# Altium integrated library Kondensator_DIP.IntLib: 1521 symbols (part 4 of 5)
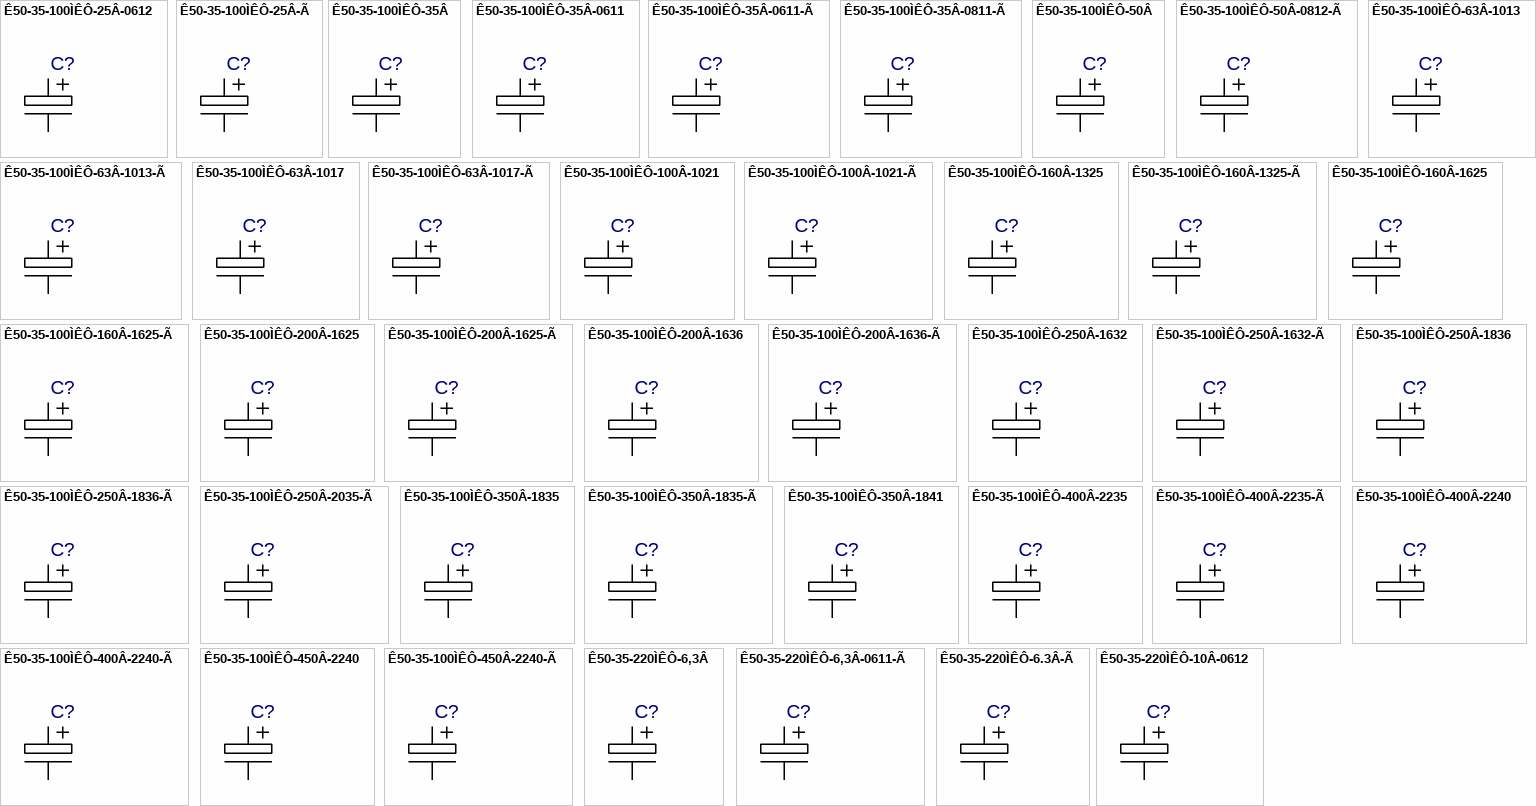
[diagram p41: symbols Ê50-35-100ÌÊÔ-25Â-0612 to Ê50-35-220ÌÊÔ-10Â-0612]

## Ê50-35-100ÌÊÔ-200Â-1625-Ã
designator C?  (value not drawn)
Value: *
footprint Ê50-35-16XX-Ã_K5035-1R
footprint Ê50-35-16XX-Ã_K5035-1R1
footprint Ê50-35-16XX-Ã_Primary
pins: 1, 2

## Ê50-35-100ÌÊÔ-200Â-1636
designator C?  (value not drawn)
Value: *
footprint Ê50-35-1625_K5035-1R
footprint Ê50-35-1625_K5035-1R1
footprint Ê50-35-1625_Primary
pins: 1, 2

## Ê50-35-100ÌÊÔ-200Â-1636-Ã
designator C?  (value not drawn)
Value: *
footprint Ê50-35-16XX-Ã_K5035-1R
footprint Ê50-35-16XX-Ã_K5035-1R1
footprint Ê50-35-16XX-Ã_Primary
pins: 1, 2

## Ê50-35-100ÌÊÔ-250Â-1632
designator C?  (value not drawn)
Value: *
footprint Ê50-35-1625_K5035-1R
footprint Ê50-35-1625_K5035-1R1
footprint Ê50-35-1625_Primary
pins: 1, 2

## Ê50-35-100ÌÊÔ-250Â-1632-Ã
designator C?  (value not drawn)
Value: *
footprint Ê50-35-16XX-Ã_K5035-1R
footprint Ê50-35-16XX-Ã_K5035-1R1
footprint Ê50-35-16XX-Ã_Primary
pins: 1, 2

## Ê50-35-100ÌÊÔ-250Â-1836
designator C?  (value not drawn)
Value: *
footprint Ê50-35-1835_K5035-1R
footprint Ê50-35-1835_K5035-1R1
footprint Ê50-35-1835_Primary
pins: 1, 2

## Ê50-35-100ÌÊÔ-250Â-1836-Ã
designator C?  (value not drawn)
Value: *
footprint Ê50-35-18XX-Ã_K5035-1R
footprint Ê50-35-18XX-Ã_K5035-1R1
footprint Ê50-35-18XX-Ã_Primary
pins: 1, 2

## Ê50-35-100ÌÊÔ-250Â-2035-Ã
designator C?  (value not drawn)
Value: *
footprint Ê50-35-20XX-Ã_K5035-1R
footprint Ê50-35-20XX-Ã_K5035-1R1
footprint Ê50-35-20XX-Ã_Primary
pins: 1, 2

## Ê50-35-100ÌÊÔ-350Â-1835
designator C?  (value not drawn)
Value: *
footprint Ê50-35-1835_K5035-1R
footprint Ê50-35-1835_K5035-1R1
footprint Ê50-35-1835_Primary
pins: 1, 2

## Ê50-35-100ÌÊÔ-350Â-1835-Ã
designator C?  (value not drawn)
Value: *
footprint Ê50-35-18XX-Ã_K5035-1R
footprint Ê50-35-18XX-Ã_K5035-1R1
footprint Ê50-35-18XX-Ã_Primary
pins: 1, 2

## Ê50-35-100ÌÊÔ-350Â-1841
designator C?  (value not drawn)
Value: *
footprint Ê50-35-1835_K5035-1R
footprint Ê50-35-1835_K5035-1R1
footprint Ê50-35-1835_Primary
pins: 1, 2

## Ê50-35-100ÌÊÔ-400Â-2235
designator C?  (value not drawn)
Value: *
footprint Ê50-35-2240_K5035-1R
footprint Ê50-35-2240_K5035-1R1
footprint Ê50-35-2240_Primary
pins: 1, 2

## Ê50-35-100ÌÊÔ-400Â-2235-Ã
designator C?  (value not drawn)
Value: *
footprint Ê50-35-22XX-Ã_K5035-1R
footprint Ê50-35-22XX-Ã_K5035-1R1
footprint Ê50-35-22XX-Ã_Primary
pins: 1, 2

## Ê50-35-100ÌÊÔ-400Â-2240
designator C?  (value not drawn)
Value: *
footprint Ê50-35-2240_K5035-1R
footprint Ê50-35-2240_K5035-1R1
footprint Ê50-35-2240_Primary
pins: 1, 2

## Ê50-35-100ÌÊÔ-400Â-2240-Ã
designator C?  (value not drawn)
Value: *
footprint Ê50-35-22XX-Ã_K5035-1R
footprint Ê50-35-22XX-Ã_K5035-1R1
footprint Ê50-35-22XX-Ã_Primary
pins: 1, 2

## Ê50-35-100ÌÊÔ-450Â-2240
designator C?  (value not drawn)
Value: *
footprint Ê50-35-2240_K5035-1R
footprint Ê50-35-2240_K5035-1R1
footprint Ê50-35-2240_Primary
pins: 1, 2

## Ê50-35-100ÌÊÔ-450Â-2240-Ã
designator C?  (value not drawn)
Value: *
footprint Ê50-35-22XX-Ã_K5035-1R
footprint Ê50-35-22XX-Ã_K5035-1R1
footprint Ê50-35-22XX-Ã_Primary
pins: 1, 2

## Ê50-35-220ÌÊÔ-6,3Â
designator C?  (value not drawn)
Value: *
footprint Ê50-35-0511_K5035-1R
footprint Ê50-35-0511_K5035-1R1
footprint Ê50-35-0511_Primary
pins: 1, 2

## Ê50-35-220ÌÊÔ-6,3Â-0611-Ã
designator C?  (value not drawn)
Value: *
footprint Ê50-35-0611-Ã_K5035-1R
footprint Ê50-35-0611-Ã_K5035-1R1
footprint Ê50-35-0611-Ã_Primary
pins: 1, 2

## Ê50-35-220ÌÊÔ-6.3Â-Ã
designator C?  (value not drawn)
Value: *
footprint Ê50-35-0511-Ã_K5035-1R
footprint Ê50-35-0511-Ã_K5035-1R1
footprint Ê50-35-0511-Ã_Primary
pins: 1, 2

## Ê50-35-220ÌÊÔ-10Â-0612
designator C?  (value not drawn)
Value: *
footprint Ê50-35-0611_K5035-1R
footprint Ê50-35-0611_K5035-1R1
footprint Ê50-35-0611_Primary
pins: 1, 2

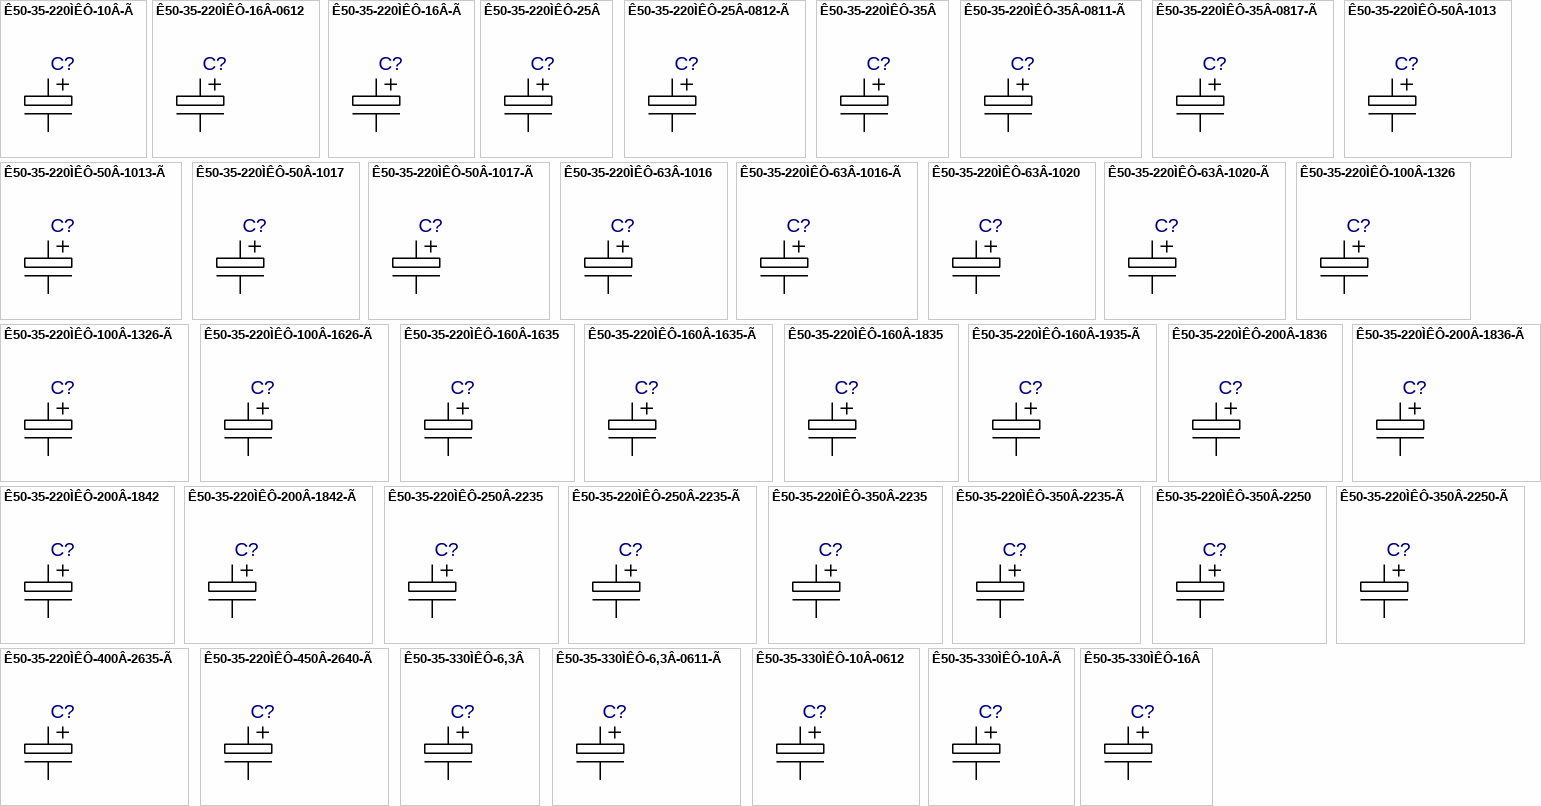
[diagram p30: symbols Ê50-35-220ÌÊÔ-10Â-Ã to Ê50-35-330ÌÊÔ-16Â]

## Ê50-35-220ÌÊÔ-10Â-Ã
designator C?  (value not drawn)
Value: *
footprint Ê50-35-0611-Ã_K5035-1R
footprint Ê50-35-0611-Ã_K5035-1R1
footprint Ê50-35-0611-Ã_Primary
pins: 1, 2

## Ê50-35-220ÌÊÔ-16Â-0612
designator C?  (value not drawn)
Value: *
footprint Ê50-35-0611_K5035-1R
footprint Ê50-35-0611_K5035-1R1
footprint Ê50-35-0611_Primary
pins: 1, 2

## Ê50-35-220ÌÊÔ-16Â-Ã
designator C?  (value not drawn)
Value: *
footprint Ê50-35-0611-Ã_K5035-1R
footprint Ê50-35-0611-Ã_K5035-1R1
footprint Ê50-35-0611-Ã_Primary
pins: 1, 2

## Ê50-35-220ÌÊÔ-25Â
designator C?  (value not drawn)
Value: *
footprint R50-35-08XX_K5035-2R
footprint R50-35-08XX_K5035-2R1
footprint R50-35-08XX_Primary
pins: 1, 2

## Ê50-35-220ÌÊÔ-25Â-0812-Ã
designator C?  (value not drawn)
Value: *
footprint Ê50-35-08XX-Ã_K5035-2R
footprint Ê50-35-08XX-Ã_K5035-2R1
footprint Ê50-35-08XX-Ã_Primary
pins: 1, 2

## Ê50-35-220ÌÊÔ-35Â
designator C?  (value not drawn)
Value: *
footprint R50-35-08XX_K5035-2R
footprint R50-35-08XX_K5035-2R1
footprint R50-35-08XX_Primary
pins: 1, 2

## Ê50-35-220ÌÊÔ-35Â-0811-Ã
designator C?  (value not drawn)
Value: *
footprint Ê50-35-08XX-Ã_K5035-2R
footprint Ê50-35-08XX-Ã_K5035-2R1
footprint Ê50-35-08XX-Ã_Primary
pins: 1, 2

## Ê50-35-220ÌÊÔ-35Â-0817-Ã
designator C?  (value not drawn)
Value: *
footprint Ê50-35-08XX-Ã_K5035-2R
footprint Ê50-35-08XX-Ã_K5035-2R1
footprint Ê50-35-08XX-Ã_Primary
pins: 1, 2

## Ê50-35-220ÌÊÔ-50Â-1013
designator C?  (value not drawn)
Value: *
footprint Ê50-35-1020_K5035-1R
footprint Ê50-35-1020_K5035-1R1
footprint Ê50-35-1020_Primary
pins: 1, 2

## Ê50-35-220ÌÊÔ-50Â-1013-Ã
designator C?  (value not drawn)
Value: *
footprint Ê50-35-1020-Ã_K5035-1R
footprint Ê50-35-1020-Ã_K5035-1R1
footprint Ê50-35-1020-Ã_Primary
pins: 1, 2

## Ê50-35-220ÌÊÔ-50Â-1017
designator C?  (value not drawn)
Value: *
footprint Ê50-35-1020_K5035-1R
footprint Ê50-35-1020_K5035-1R1
footprint Ê50-35-1020_Primary
pins: 1, 2

## Ê50-35-220ÌÊÔ-50Â-1017-Ã
designator C?  (value not drawn)
Value: *
footprint Ê50-35-1020-Ã_K5035-1R
footprint Ê50-35-1020-Ã_K5035-1R1
footprint Ê50-35-1020-Ã_Primary
pins: 1, 2

## Ê50-35-220ÌÊÔ-63Â-1016
designator C?  (value not drawn)
Value: *
footprint Ê50-35-1020_K5035-1R
footprint Ê50-35-1020_K5035-1R1
footprint Ê50-35-1020_Primary
pins: 1, 2

## Ê50-35-220ÌÊÔ-63Â-1016-Ã
designator C?  (value not drawn)
Value: *
footprint Ê50-35-1020-Ã_K5035-1R
footprint Ê50-35-1020-Ã_K5035-1R1
footprint Ê50-35-1020-Ã_Primary
pins: 1, 2

## Ê50-35-220ÌÊÔ-63Â-1020
designator C?  (value not drawn)
Value: *
footprint Ê50-35-1020_K5035-1R
footprint Ê50-35-1020_K5035-1R1
footprint Ê50-35-1020_Primary
pins: 1, 2

## Ê50-35-220ÌÊÔ-63Â-1020-Ã
designator C?  (value not drawn)
Value: *
footprint Ê50-35-1020-Ã_K5035-1R
footprint Ê50-35-1020-Ã_K5035-1R1
footprint Ê50-35-1020-Ã_Primary
pins: 1, 2

## Ê50-35-220ÌÊÔ-100Â-1326
designator C?  (value not drawn)
Value: *
footprint Ê50-35-1320_K5035-1R
footprint Ê50-35-1320_K5035-1R1
footprint Ê50-35-1320_Primary
pins: 1, 2

## Ê50-35-220ÌÊÔ-100Â-1326-Ã
designator C?  (value not drawn)
Value: *
footprint Ê50-35-13XX-Ã_K5035-1R
footprint Ê50-35-13XX-Ã_K5035-1R1
footprint Ê50-35-13XX-Ã_Primary
pins: 1, 2

## Ê50-35-220ÌÊÔ-100Â-1626-Ã
designator C?  (value not drawn)
Value: *
footprint Ê50-35-16XX-Ã_K5035-1R
footprint Ê50-35-16XX-Ã_K5035-1R1
footprint Ê50-35-16XX-Ã_Primary
pins: 1, 2

## Ê50-35-220ÌÊÔ-160Â-1635
designator C?  (value not drawn)
Value: *
footprint Ê50-35-1625_K5035-1R
footprint Ê50-35-1625_K5035-1R1
footprint Ê50-35-1625_Primary
pins: 1, 2

## Ê50-35-220ÌÊÔ-160Â-1635-Ã
designator C?  (value not drawn)
Value: *
footprint Ê50-35-16XX-Ã_K5035-1R
footprint Ê50-35-16XX-Ã_K5035-1R1
footprint Ê50-35-16XX-Ã_Primary
pins: 1, 2

## Ê50-35-220ÌÊÔ-160Â-1835
designator C?  (value not drawn)
Value: *
footprint Ê50-35-1835_K5035-1R
footprint Ê50-35-1835_K5035-1R1
footprint Ê50-35-1835_Primary
pins: 1, 2

## Ê50-35-220ÌÊÔ-160Â-1935-Ã
designator C?  (value not drawn)
Value: *
footprint Ê50-35-18XX-Ã_K5035-1R
footprint Ê50-35-18XX-Ã_K5035-1R1
footprint Ê50-35-18XX-Ã_Primary
pins: 1, 2

## Ê50-35-220ÌÊÔ-200Â-1836
designator C?  (value not drawn)
Value: *
footprint Ê50-35-1835_K5035-1R
footprint Ê50-35-1835_K5035-1R1
footprint Ê50-35-1835_Primary
pins: 1, 2

## Ê50-35-220ÌÊÔ-200Â-1836-Ã
designator C?  (value not drawn)
Value: *
footprint Ê50-35-18XX-Ã_K5035-1R
footprint Ê50-35-18XX-Ã_K5035-1R1
footprint Ê50-35-18XX-Ã_Primary
pins: 1, 2

## Ê50-35-220ÌÊÔ-200Â-1842
designator C?  (value not drawn)
Value: *
footprint Ê50-35-1835_K5035-1R
footprint Ê50-35-1835_K5035-1R1
footprint Ê50-35-1835_Primary
pins: 1, 2

## Ê50-35-220ÌÊÔ-200Â-1842-Ã
designator C?  (value not drawn)
Value: *
footprint Ê50-35-18XX-Ã_K5035-1R
footprint Ê50-35-18XX-Ã_K5035-1R1
footprint Ê50-35-18XX-Ã_Primary
pins: 1, 2

## Ê50-35-220ÌÊÔ-250Â-2235
designator C?  (value not drawn)
Value: *
footprint Ê50-35-2240_K5035-1R
footprint Ê50-35-2240_K5035-1R1
footprint Ê50-35-2240_Primary
pins: 1, 2

## Ê50-35-220ÌÊÔ-250Â-2235-Ã
designator C?  (value not drawn)
Value: *
footprint Ê50-35-22XX-Ã_K5035-1R
footprint Ê50-35-22XX-Ã_K5035-1R1
footprint Ê50-35-22XX-Ã_Primary
pins: 1, 2

## Ê50-35-220ÌÊÔ-350Â-2235
designator C?  (value not drawn)
Value: *
footprint Ê50-35-2240_K5035-1R
footprint Ê50-35-2240_K5035-1R1
footprint Ê50-35-2240_Primary
pins: 1, 2

## Ê50-35-220ÌÊÔ-350Â-2235-Ã
designator C?  (value not drawn)
Value: *
footprint Ê50-35-22XX-Ã_K5035-1R
footprint Ê50-35-22XX-Ã_K5035-1R1
footprint Ê50-35-22XX-Ã_Primary
pins: 1, 2

## Ê50-35-220ÌÊÔ-350Â-2250
designator C?  (value not drawn)
Value: *
footprint Ê50-35-2240_K5035-1R
footprint Ê50-35-2240_K5035-1R1
footprint Ê50-35-2240_Primary
pins: 1, 2

## Ê50-35-220ÌÊÔ-350Â-2250-Ã
designator C?  (value not drawn)
Value: *
footprint Ê50-35-22XX-Ã_K5035-1R
footprint Ê50-35-22XX-Ã_K5035-1R1
footprint Ê50-35-22XX-Ã_Primary
pins: 1, 2

## Ê50-35-220ÌÊÔ-400Â-2635-Ã
designator C?  (value not drawn)
Value: *
footprint Ê50-35-26XX-Ã_K5035-1R
footprint Ê50-35-26XX-Ã_K5035-1R1
footprint Ê50-35-26XX-Ã_Primary
pins: 1, 2

## Ê50-35-220ÌÊÔ-450Â-2640-Ã
designator C?  (value not drawn)
Value: *
footprint Ê50-35-26XX-Ã_K5035-1R
footprint Ê50-35-26XX-Ã_K5035-1R1
footprint Ê50-35-26XX-Ã_Primary
pins: 1, 2

## Ê50-35-330ÌÊÔ-6,3Â
designator C?  (value not drawn)
Value: *
footprint Ê50-35-0611_K5035-1R
footprint Ê50-35-0611_K5035-1R1
footprint Ê50-35-0611_Primary
pins: 1, 2

## Ê50-35-330ÌÊÔ-6,3Â-0611-Ã
designator C?  (value not drawn)
Value: *
footprint Ê50-35-0611-Ã_K5035-1R
footprint Ê50-35-0611-Ã_K5035-1R1
footprint Ê50-35-0611-Ã_Primary
pins: 1, 2

## Ê50-35-330ÌÊÔ-10Â-0612
designator C?  (value not drawn)
Value: *
footprint Ê50-35-0611_K5035-1R
footprint Ê50-35-0611_K5035-1R1
footprint Ê50-35-0611_Primary
pins: 1, 2

## Ê50-35-330ÌÊÔ-10Â-Ã
designator C?  (value not drawn)
Value: *
footprint Ê50-35-0611-Ã_K5035-1R
footprint Ê50-35-0611-Ã_K5035-1R1
footprint Ê50-35-0611-Ã_Primary
pins: 1, 2

## Ê50-35-330ÌÊÔ-16Â
designator C?  (value not drawn)
Value: *
footprint R50-35-08XX_K5035-2R
footprint R50-35-08XX_K5035-2R1
footprint R50-35-08XX_Primary
pins: 1, 2

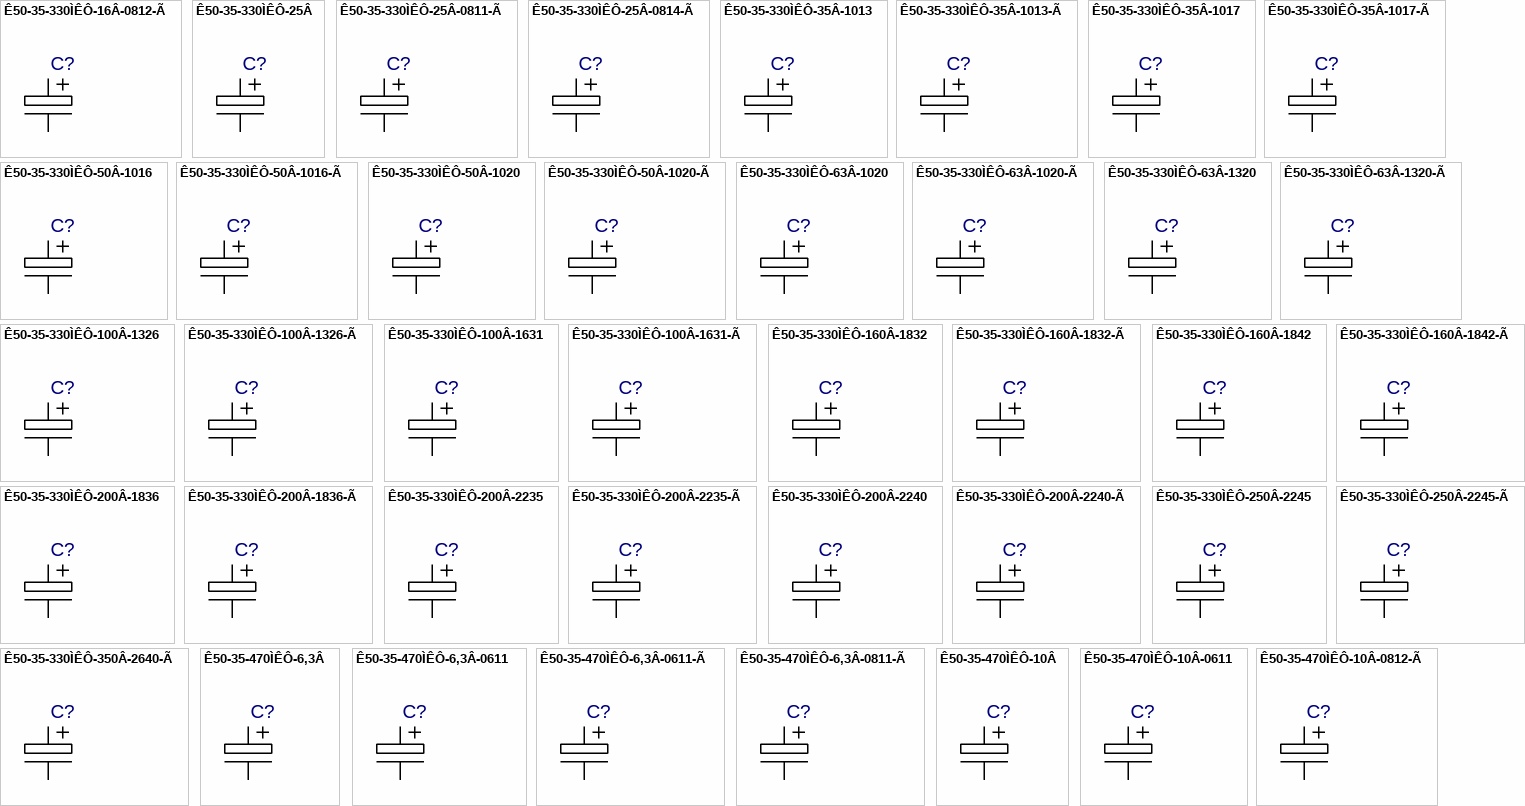
[diagram p31: symbols Ê50-35-330ÌÊÔ-16Â-0812-Ã to Ê50-35-470ÌÊÔ-10Â-0812-Ã]

## Ê50-35-330ÌÊÔ-16Â-0812-Ã
designator C?  (value not drawn)
Value: *
footprint Ê50-35-08XX-Ã_K5035-2R
footprint Ê50-35-08XX-Ã_K5035-2R1
footprint Ê50-35-08XX-Ã_Primary
pins: 1, 2

## Ê50-35-330ÌÊÔ-25Â
designator C?  (value not drawn)
Value: *
footprint R50-35-08XX_K5035-2R
footprint R50-35-08XX_K5035-2R1
footprint R50-35-08XX_Primary
pins: 1, 2

## Ê50-35-330ÌÊÔ-25Â-0811-Ã
designator C?  (value not drawn)
Value: *
footprint Ê50-35-08XX-Ã_K5035-2R
footprint Ê50-35-08XX-Ã_K5035-2R1
footprint Ê50-35-08XX-Ã_Primary
pins: 1, 2

## Ê50-35-330ÌÊÔ-25Â-0814-Ã
designator C?  (value not drawn)
Value: *
footprint Ê50-35-08XX-Ã_K5035-2R
footprint Ê50-35-08XX-Ã_K5035-2R1
footprint Ê50-35-08XX-Ã_Primary
pins: 1, 2

## Ê50-35-330ÌÊÔ-35Â-1013
designator C?  (value not drawn)
Value: *
footprint Ê50-35-1020_K5035-1R
footprint Ê50-35-1020_K5035-1R1
footprint Ê50-35-1020_Primary
pins: 1, 2

## Ê50-35-330ÌÊÔ-35Â-1013-Ã
designator C?  (value not drawn)
Value: *
footprint Ê50-35-1020-Ã_K5035-1R
footprint Ê50-35-1020-Ã_K5035-1R1
footprint Ê50-35-1020-Ã_Primary
pins: 1, 2

## Ê50-35-330ÌÊÔ-35Â-1017
designator C?  (value not drawn)
Value: *
footprint Ê50-35-1020_K5035-1R
footprint Ê50-35-1020_K5035-1R1
footprint Ê50-35-1020_Primary
pins: 1, 2

## Ê50-35-330ÌÊÔ-35Â-1017-Ã
designator C?  (value not drawn)
Value: *
footprint Ê50-35-1020-Ã_K5035-1R
footprint Ê50-35-1020-Ã_K5035-1R1
footprint Ê50-35-1020-Ã_Primary
pins: 1, 2

## Ê50-35-330ÌÊÔ-50Â-1016
designator C?  (value not drawn)
Value: *
footprint Ê50-35-1020_K5035-1R
footprint Ê50-35-1020_K5035-1R1
footprint Ê50-35-1020_Primary
pins: 1, 2

## Ê50-35-330ÌÊÔ-50Â-1016-Ã
designator C?  (value not drawn)
Value: *
footprint Ê50-35-1020-Ã_K5035-1R
footprint Ê50-35-1020-Ã_K5035-1R1
footprint Ê50-35-1020-Ã_Primary
pins: 1, 2

## Ê50-35-330ÌÊÔ-50Â-1020
designator C?  (value not drawn)
Value: *
footprint Ê50-35-1020_K5035-1R
footprint Ê50-35-1020_K5035-1R1
footprint Ê50-35-1020_Primary
pins: 1, 2

## Ê50-35-330ÌÊÔ-50Â-1020-Ã
designator C?  (value not drawn)
Value: *
footprint Ê50-35-1020-Ã_K5035-1R
footprint Ê50-35-1020-Ã_K5035-1R1
footprint Ê50-35-1020-Ã_Primary
pins: 1, 2

## Ê50-35-330ÌÊÔ-63Â-1020
designator C?  (value not drawn)
Value: *
footprint Ê50-35-1020_K5035-1R
footprint Ê50-35-1020_K5035-1R1
footprint Ê50-35-1020_Primary
pins: 1, 2

## Ê50-35-330ÌÊÔ-63Â-1020-Ã
designator C?  (value not drawn)
Value: *
footprint Ê50-35-1020-Ã_K5035-1R
footprint Ê50-35-1020-Ã_K5035-1R1
footprint Ê50-35-1020-Ã_Primary
pins: 1, 2

## Ê50-35-330ÌÊÔ-63Â-1320
designator C?  (value not drawn)
Value: *
footprint Ê50-35-1320_K5035-1R
footprint Ê50-35-1320_K5035-1R1
footprint Ê50-35-1320_Primary
pins: 1, 2

## Ê50-35-330ÌÊÔ-63Â-1320-Ã
designator C?  (value not drawn)
Value: *
footprint Ê50-35-13XX-Ã_K5035-1R
footprint Ê50-35-13XX-Ã_K5035-1R1
footprint Ê50-35-13XX-Ã_Primary
pins: 1, 2

## Ê50-35-330ÌÊÔ-100Â-1326
designator C?  (value not drawn)
Value: *
footprint Ê50-35-1320_K5035-1R
footprint Ê50-35-1320_K5035-1R1
footprint Ê50-35-1320_Primary
pins: 1, 2

## Ê50-35-330ÌÊÔ-100Â-1326-Ã
designator C?  (value not drawn)
Value: *
footprint Ê50-35-13XX-Ã_K5035-1R
footprint Ê50-35-13XX-Ã_K5035-1R1
footprint Ê50-35-13XX-Ã_Primary
pins: 1, 2

## Ê50-35-330ÌÊÔ-100Â-1631
designator C?  (value not drawn)
Value: *
footprint Ê50-35-1625_K5035-1R
footprint Ê50-35-1625_K5035-1R1
footprint Ê50-35-1625_Primary
pins: 1, 2

## Ê50-35-330ÌÊÔ-100Â-1631-Ã
designator C?  (value not drawn)
Value: *
footprint Ê50-35-16XX-Ã_K5035-1R
footprint Ê50-35-16XX-Ã_K5035-1R1
footprint Ê50-35-16XX-Ã_Primary
pins: 1, 2

## Ê50-35-330ÌÊÔ-160Â-1832
designator C?  (value not drawn)
Value: *
footprint Ê50-35-1835_K5035-1R
footprint Ê50-35-1835_K5035-1R1
footprint Ê50-35-1835_Primary
pins: 1, 2

## Ê50-35-330ÌÊÔ-160Â-1832-Ã
designator C?  (value not drawn)
Value: *
footprint Ê50-35-18XX-Ã_K5035-1R
footprint Ê50-35-18XX-Ã_K5035-1R1
footprint Ê50-35-18XX-Ã_Primary
pins: 1, 2

## Ê50-35-330ÌÊÔ-160Â-1842
designator C?  (value not drawn)
Value: *
footprint Ê50-35-1835_K5035-1R
footprint Ê50-35-1835_K5035-1R1
footprint Ê50-35-1835_Primary
pins: 1, 2

## Ê50-35-330ÌÊÔ-160Â-1842-Ã
designator C?  (value not drawn)
Value: *
footprint Ê50-35-18XX-Ã_K5035-1R
footprint Ê50-35-18XX-Ã_K5035-1R1
footprint Ê50-35-18XX-Ã_Primary
pins: 1, 2

## Ê50-35-330ÌÊÔ-200Â-1836
designator C?  (value not drawn)
Value: *
footprint Ê50-35-1835_K5035-1R
footprint Ê50-35-1835_K5035-1R1
footprint Ê50-35-1835_Primary
pins: 1, 2

## Ê50-35-330ÌÊÔ-200Â-1836-Ã
designator C?  (value not drawn)
Value: *
footprint Ê50-35-18XX-Ã_K5035-1R
footprint Ê50-35-18XX-Ã_K5035-1R1
footprint Ê50-35-18XX-Ã_Primary
pins: 1, 2

## Ê50-35-330ÌÊÔ-200Â-2235
designator C?  (value not drawn)
Value: *
footprint Ê50-35-2240_K5035-1R
footprint Ê50-35-2240_K5035-1R1
footprint Ê50-35-2240_Primary
pins: 1, 2

## Ê50-35-330ÌÊÔ-200Â-2235-Ã
designator C?  (value not drawn)
Value: *
footprint Ê50-35-22XX-Ã_K5035-1R
footprint Ê50-35-22XX-Ã_K5035-1R1
footprint Ê50-35-22XX-Ã_Primary
pins: 1, 2

## Ê50-35-330ÌÊÔ-200Â-2240
designator C?  (value not drawn)
Value: *
footprint Ê50-35-2240_K5035-1R
footprint Ê50-35-2240_K5035-1R1
footprint Ê50-35-2240_Primary
pins: 1, 2

## Ê50-35-330ÌÊÔ-200Â-2240-Ã
designator C?  (value not drawn)
Value: *
footprint Ê50-35-22XX-Ã_K5035-1R
footprint Ê50-35-22XX-Ã_K5035-1R1
footprint Ê50-35-22XX-Ã_Primary
pins: 1, 2

## Ê50-35-330ÌÊÔ-250Â-2245
designator C?  (value not drawn)
Value: *
footprint Ê50-35-2240_K5035-1R
footprint Ê50-35-2240_K5035-1R1
footprint Ê50-35-2240_Primary
pins: 1, 2

## Ê50-35-330ÌÊÔ-250Â-2245-Ã
designator C?  (value not drawn)
Value: *
footprint Ê50-35-22XX-Ã_K5035-1R
footprint Ê50-35-22XX-Ã_K5035-1R1
footprint Ê50-35-22XX-Ã_Primary
pins: 1, 2

## Ê50-35-330ÌÊÔ-350Â-2640-Ã
designator C?  (value not drawn)
Value: *
footprint Ê50-35-26XX-Ã_K5035-1R
footprint Ê50-35-26XX-Ã_K5035-1R1
footprint Ê50-35-26XX-Ã_Primary
pins: 1, 2

## Ê50-35-470ÌÊÔ-6,3Â
designator C?  (value not drawn)
Value: *
footprint R50-35-08XX_K5035-2R
footprint R50-35-08XX_K5035-2R1
footprint R50-35-08XX_Primary
pins: 1, 2

## Ê50-35-470ÌÊÔ-6,3Â-0611
designator C?  (value not drawn)
Value: *
footprint Ê50-35-0611_K5035-1R
footprint Ê50-35-0611_K5035-1R1
footprint Ê50-35-0611_Primary
pins: 1, 2

## Ê50-35-470ÌÊÔ-6,3Â-0611-Ã
designator C?  (value not drawn)
Value: *
footprint Ê50-35-0611-Ã_K5035-1R
footprint Ê50-35-0611-Ã_K5035-1R1
footprint Ê50-35-0611-Ã_Primary
pins: 1, 2

## Ê50-35-470ÌÊÔ-6,3Â-0811-Ã
designator C?  (value not drawn)
Value: *
footprint Ê50-35-08XX-Ã_K5035-2R
footprint Ê50-35-08XX-Ã_K5035-2R1
footprint Ê50-35-08XX-Ã_Primary
pins: 1, 2

## Ê50-35-470ÌÊÔ-10Â
designator C?  (value not drawn)
Value: *
footprint R50-35-08XX_K5035-2R
footprint R50-35-08XX_K5035-2R1
footprint R50-35-08XX_Primary
pins: 1, 2

## Ê50-35-470ÌÊÔ-10Â-0611
designator C?  (value not drawn)
Value: *
footprint Ê50-35-0611_K5035-1R
footprint Ê50-35-0611_K5035-1R1
footprint Ê50-35-0611_Primary
pins: 1, 2

## Ê50-35-470ÌÊÔ-10Â-0812-Ã
designator C?  (value not drawn)
Value: *
footprint Ê50-35-08XX-Ã_K5035-2R
footprint Ê50-35-08XX-Ã_K5035-2R1
footprint Ê50-35-08XX-Ã_Primary
pins: 1, 2

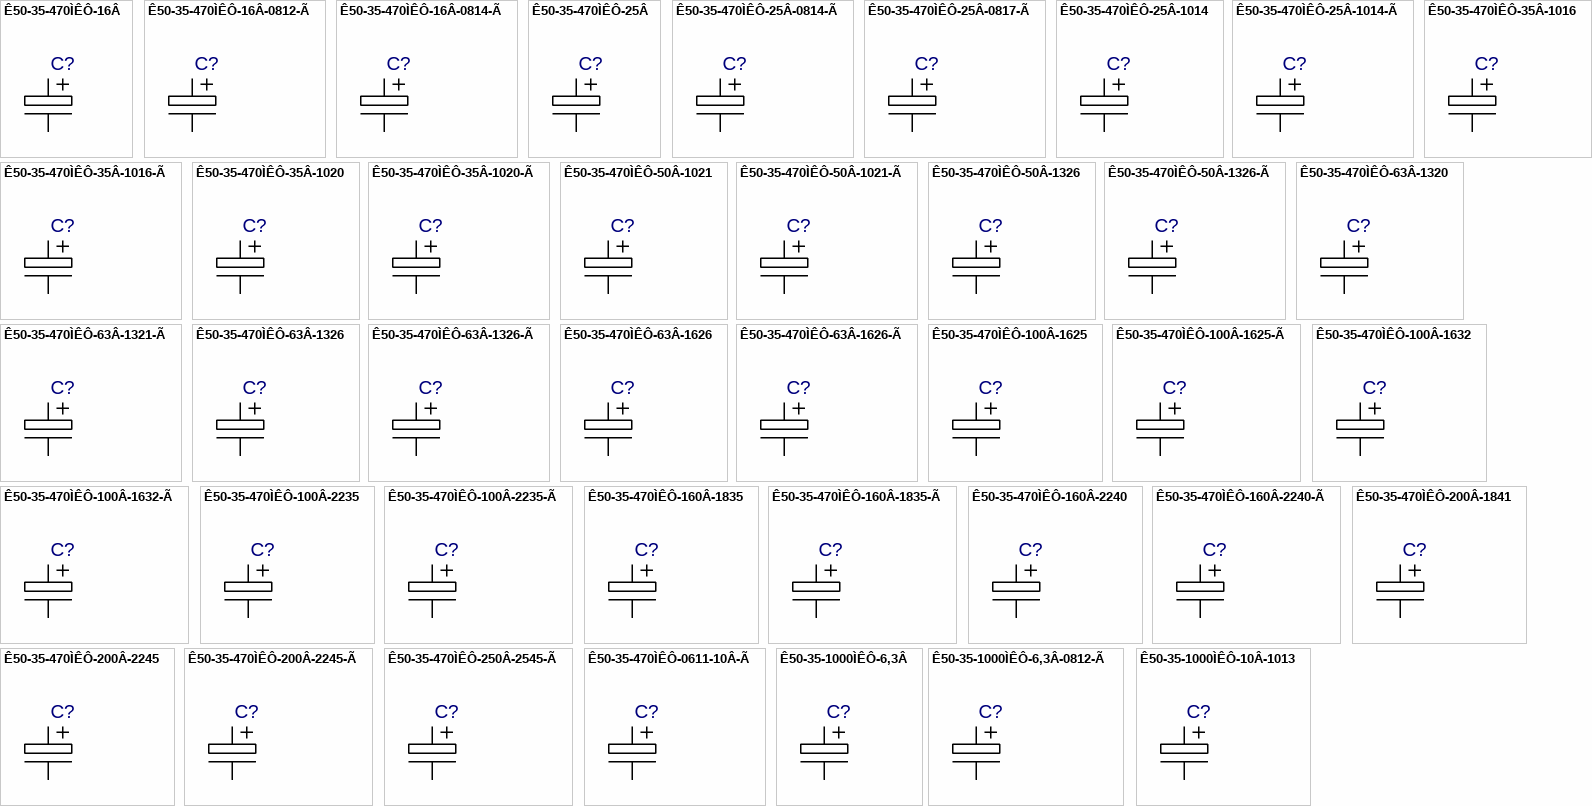
[diagram p32: symbols Ê50-35-470ÌÊÔ-16Â to Ê50-35-1000ÌÊÔ-10Â-1013]

## Ê50-35-470ÌÊÔ-16Â
designator C?  (value not drawn)
Value: *
footprint R50-35-08XX_K5035-2R
footprint R50-35-08XX_K5035-2R1
footprint R50-35-08XX_Primary
pins: 1, 2

## Ê50-35-470ÌÊÔ-16Â-0812-Ã
designator C?  (value not drawn)
Value: *
footprint Ê50-35-08XX-Ã_K5035-2R
footprint Ê50-35-08XX-Ã_K5035-2R1
footprint Ê50-35-08XX-Ã_Primary
pins: 1, 2

## Ê50-35-470ÌÊÔ-16Â-0814-Ã
designator C?  (value not drawn)
Value: *
footprint Ê50-35-08XX-Ã_K5035-2R
footprint Ê50-35-08XX-Ã_K5035-2R1
footprint Ê50-35-08XX-Ã_Primary
pins: 1, 2

## Ê50-35-470ÌÊÔ-25Â
designator C?  (value not drawn)
Value: *
footprint R50-35-08XX_K5035-2R
footprint R50-35-08XX_K5035-2R1
footprint R50-35-08XX_Primary
pins: 1, 2

## Ê50-35-470ÌÊÔ-25Â-0814-Ã
designator C?  (value not drawn)
Value: *
footprint Ê50-35-08XX-Ã_K5035-2R
footprint Ê50-35-08XX-Ã_K5035-2R1
footprint Ê50-35-08XX-Ã_Primary
pins: 1, 2

## Ê50-35-470ÌÊÔ-25Â-0817-Ã
designator C?  (value not drawn)
Value: *
footprint Ê50-35-08XX-Ã_K5035-2R
footprint Ê50-35-08XX-Ã_K5035-2R1
footprint Ê50-35-08XX-Ã_Primary
pins: 1, 2

## Ê50-35-470ÌÊÔ-25Â-1014
designator C?  (value not drawn)
Value: *
footprint Ê50-35-1020_K5035-1R
footprint Ê50-35-1020_K5035-1R1
footprint Ê50-35-1020_Primary
pins: 1, 2

## Ê50-35-470ÌÊÔ-25Â-1014-Ã
designator C?  (value not drawn)
Value: *
footprint Ê50-35-1020-Ã_K5035-1R
footprint Ê50-35-1020-Ã_K5035-1R1
footprint Ê50-35-1020-Ã_Primary
pins: 1, 2

## Ê50-35-470ÌÊÔ-35Â-1016
designator C?  (value not drawn)
Value: *
footprint Ê50-35-1020_K5035-1R
footprint Ê50-35-1020_K5035-1R1
footprint Ê50-35-1020_Primary
pins: 1, 2

## Ê50-35-470ÌÊÔ-35Â-1016-Ã
designator C?  (value not drawn)
Value: *
footprint Ê50-35-1020-Ã_K5035-1R
footprint Ê50-35-1020-Ã_K5035-1R1
footprint Ê50-35-1020-Ã_Primary
pins: 1, 2

## Ê50-35-470ÌÊÔ-35Â-1020
designator C?  (value not drawn)
Value: *
footprint Ê50-35-1020_K5035-1R
footprint Ê50-35-1020_K5035-1R1
footprint Ê50-35-1020_Primary
pins: 1, 2

## Ê50-35-470ÌÊÔ-35Â-1020-Ã
designator C?  (value not drawn)
Value: *
footprint Ê50-35-1020-Ã_K5035-1R
footprint Ê50-35-1020-Ã_K5035-1R1
footprint Ê50-35-1020-Ã_Primary
pins: 1, 2

## Ê50-35-470ÌÊÔ-50Â-1021
designator C?  (value not drawn)
Value: *
footprint Ê50-35-1020_K5035-1R
footprint Ê50-35-1020_K5035-1R1
footprint Ê50-35-1020_Primary
pins: 1, 2

## Ê50-35-470ÌÊÔ-50Â-1021-Ã
designator C?  (value not drawn)
Value: *
footprint Ê50-35-1020-Ã_K5035-1R
footprint Ê50-35-1020-Ã_K5035-1R1
footprint Ê50-35-1020-Ã_Primary
pins: 1, 2

## Ê50-35-470ÌÊÔ-50Â-1326
designator C?  (value not drawn)
Value: *
footprint Ê50-35-1320_K5035-1R
footprint Ê50-35-1320_K5035-1R1
footprint Ê50-35-1320_Primary
pins: 1, 2

## Ê50-35-470ÌÊÔ-50Â-1326-Ã
designator C?  (value not drawn)
Value: *
footprint Ê50-35-13XX-Ã_K5035-1R
footprint Ê50-35-13XX-Ã_K5035-1R1
footprint Ê50-35-13XX-Ã_Primary
pins: 1, 2

## Ê50-35-470ÌÊÔ-63Â-1320
designator C?  (value not drawn)
Value: *
footprint Ê50-35-1320_K5035-1R
footprint Ê50-35-1320_K5035-1R1
footprint Ê50-35-1320_Primary
pins: 1, 2

## Ê50-35-470ÌÊÔ-63Â-1321-Ã
designator C?  (value not drawn)
Value: *
footprint Ê50-35-13XX-Ã_K5035-1R
footprint Ê50-35-13XX-Ã_K5035-1R1
footprint Ê50-35-13XX-Ã_Primary
pins: 1, 2

## Ê50-35-470ÌÊÔ-63Â-1326
designator C?  (value not drawn)
Value: *
footprint Ê50-35-1320_K5035-1R
footprint Ê50-35-1320_K5035-1R1
footprint Ê50-35-1320_Primary
pins: 1, 2

## Ê50-35-470ÌÊÔ-63Â-1326-Ã
designator C?  (value not drawn)
Value: *
footprint Ê50-35-13XX-Ã_K5035-1R
footprint Ê50-35-13XX-Ã_K5035-1R1
footprint Ê50-35-13XX-Ã_Primary
pins: 1, 2

## Ê50-35-470ÌÊÔ-63Â-1626
designator C?  (value not drawn)
Value: *
footprint Ê50-35-1625_K5035-1R
footprint Ê50-35-1625_K5035-1R1
footprint Ê50-35-1625_Primary
pins: 1, 2

## Ê50-35-470ÌÊÔ-63Â-1626-Ã
designator C?  (value not drawn)
Value: *
footprint Ê50-35-16XX-Ã_K5035-1R
footprint Ê50-35-16XX-Ã_K5035-1R1
footprint Ê50-35-16XX-Ã_Primary
pins: 1, 2

## Ê50-35-470ÌÊÔ-100Â-1625
designator C?  (value not drawn)
Value: *
footprint Ê50-35-1625_K5035-1R
footprint Ê50-35-1625_K5035-1R1
footprint Ê50-35-1625_Primary
pins: 1, 2

## Ê50-35-470ÌÊÔ-100Â-1625-Ã
designator C?  (value not drawn)
Value: *
footprint Ê50-35-16XX-Ã_K5035-1R
footprint Ê50-35-16XX-Ã_K5035-1R1
footprint Ê50-35-16XX-Ã_Primary
pins: 1, 2

## Ê50-35-470ÌÊÔ-100Â-1632
designator C?  (value not drawn)
Value: *
footprint Ê50-35-1625_K5035-1R
footprint Ê50-35-1625_K5035-1R1
footprint Ê50-35-1625_Primary
pins: 1, 2

## Ê50-35-470ÌÊÔ-100Â-1632-Ã
designator C?  (value not drawn)
Value: *
footprint Ê50-35-16XX-Ã_K5035-1R
footprint Ê50-35-16XX-Ã_K5035-1R1
footprint Ê50-35-16XX-Ã_Primary
pins: 1, 2

## Ê50-35-470ÌÊÔ-100Â-2235
designator C?  (value not drawn)
Value: *
footprint Ê50-35-2240_K5035-1R
footprint Ê50-35-2240_K5035-1R1
footprint Ê50-35-2240_Primary
pins: 1, 2

## Ê50-35-470ÌÊÔ-100Â-2235-Ã
designator C?  (value not drawn)
Value: *
footprint Ê50-35-22XX-Ã_K5035-1R
footprint Ê50-35-22XX-Ã_K5035-1R1
footprint Ê50-35-22XX-Ã_Primary
pins: 1, 2

## Ê50-35-470ÌÊÔ-160Â-1835
designator C?  (value not drawn)
Value: *
footprint Ê50-35-1835_K5035-1R
footprint Ê50-35-1835_K5035-1R1
footprint Ê50-35-1835_Primary
pins: 1, 2

## Ê50-35-470ÌÊÔ-160Â-1835-Ã
designator C?  (value not drawn)
Value: *
footprint Ê50-35-18XX-Ã_K5035-1R
footprint Ê50-35-18XX-Ã_K5035-1R1
footprint Ê50-35-18XX-Ã_Primary
pins: 1, 2

## Ê50-35-470ÌÊÔ-160Â-2240
designator C?  (value not drawn)
Value: *
footprint Ê50-35-2240_K5035-1R
footprint Ê50-35-2240_K5035-1R1
footprint Ê50-35-2240_Primary
pins: 1, 2

## Ê50-35-470ÌÊÔ-160Â-2240-Ã
designator C?  (value not drawn)
Value: *
footprint Ê50-35-22XX-Ã_K5035-1R
footprint Ê50-35-22XX-Ã_K5035-1R1
footprint Ê50-35-22XX-Ã_Primary
pins: 1, 2

## Ê50-35-470ÌÊÔ-200Â-1841
designator C?  (value not drawn)
Value: *
footprint Ê50-35-1835_K5035-1R
footprint Ê50-35-1835_K5035-1R1
footprint Ê50-35-1835_Primary
pins: 1, 2

## Ê50-35-470ÌÊÔ-200Â-2245
designator C?  (value not drawn)
Value: *
footprint Ê50-35-2240_K5035-1R
footprint Ê50-35-2240_K5035-1R1
footprint Ê50-35-2240_Primary
pins: 1, 2

## Ê50-35-470ÌÊÔ-200Â-2245-Ã
designator C?  (value not drawn)
Value: *
footprint Ê50-35-22XX-Ã_K5035-1R
footprint Ê50-35-22XX-Ã_K5035-1R1
footprint Ê50-35-22XX-Ã_Primary
pins: 1, 2

## Ê50-35-470ÌÊÔ-250Â-2545-Ã
designator C?  (value not drawn)
Value: *
footprint Ê50-35-25XX-Ã_K5035-1R
footprint Ê50-35-25XX-Ã_K5035-1R1
footprint Ê50-35-25XX-Ã_Primary
pins: 1, 2

## Ê50-35-470ÌÊÔ-0611-10Â-Ã
designator C?  (value not drawn)
Value: *
footprint Ê50-35-0611-Ã_K5035-1R
footprint Ê50-35-0611-Ã_K5035-1R1
footprint Ê50-35-0611-Ã_Primary
pins: 1, 2

## Ê50-35-1000ÌÊÔ-6,3Â
designator C?  (value not drawn)
Value: *
footprint R50-35-08XX_K5035-2R
footprint R50-35-08XX_K5035-2R1
footprint R50-35-08XX_Primary
pins: 1, 2

## Ê50-35-1000ÌÊÔ-6,3Â-0812-Ã
designator C?  (value not drawn)
Value: *
footprint Ê50-35-08XX-Ã_K5035-2R
footprint Ê50-35-08XX-Ã_K5035-2R1
footprint Ê50-35-08XX-Ã_Primary
pins: 1, 2

## Ê50-35-1000ÌÊÔ-10Â-1013
designator C?  (value not drawn)
Value: *
footprint Ê50-35-1020_K5035-1R
footprint Ê50-35-1020_K5035-1R1
footprint Ê50-35-1020_Primary
pins: 1, 2

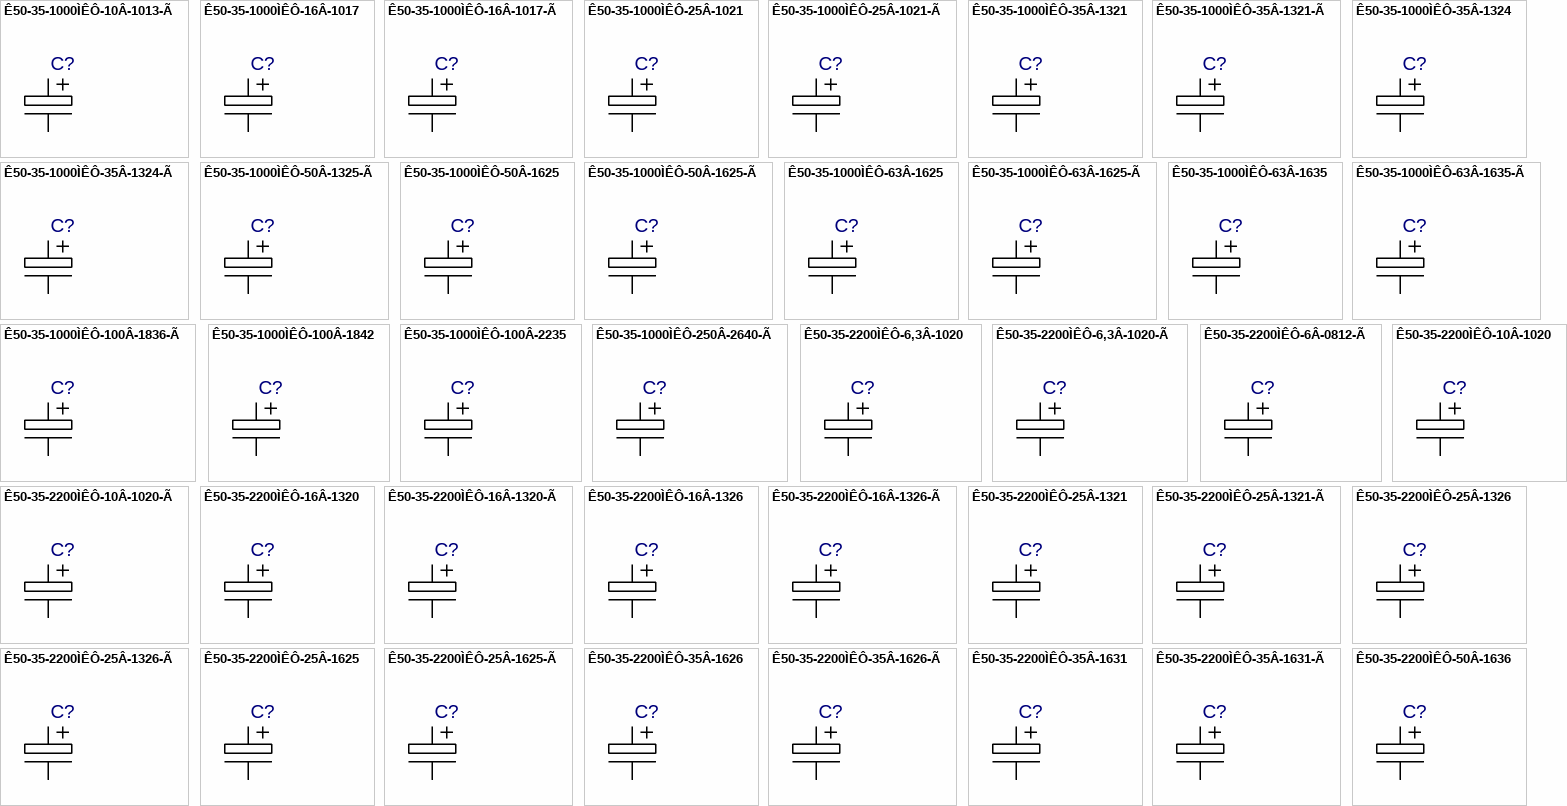
[diagram p33: symbols Ê50-35-1000ÌÊÔ-10Â-1013-Ã to Ê50-35-2200ÌÊÔ-50Â-1636]

## Ê50-35-1000ÌÊÔ-10Â-1013-Ã
designator C?  (value not drawn)
Value: *
footprint Ê50-35-1020-Ã_K5035-1R
footprint Ê50-35-1020-Ã_K5035-1R1
footprint Ê50-35-1020-Ã_Primary
pins: 1, 2

## Ê50-35-1000ÌÊÔ-16Â-1017
designator C?  (value not drawn)
Value: *
footprint Ê50-35-1020_K5035-1R
footprint Ê50-35-1020_K5035-1R1
footprint Ê50-35-1020_Primary
pins: 1, 2

## Ê50-35-1000ÌÊÔ-16Â-1017-Ã
designator C?  (value not drawn)
Value: *
footprint Ê50-35-1020-Ã_K5035-1R
footprint Ê50-35-1020-Ã_K5035-1R1
footprint Ê50-35-1020-Ã_Primary
pins: 1, 2

## Ê50-35-1000ÌÊÔ-25Â-1021
designator C?  (value not drawn)
Value: *
footprint Ê50-35-1020_K5035-1R
footprint Ê50-35-1020_K5035-1R1
footprint Ê50-35-1020_Primary
pins: 1, 2

## Ê50-35-1000ÌÊÔ-25Â-1021-Ã
designator C?  (value not drawn)
Value: *
footprint Ê50-35-1020-Ã_K5035-1R
footprint Ê50-35-1020-Ã_K5035-1R1
footprint Ê50-35-1020-Ã_Primary
pins: 1, 2

## Ê50-35-1000ÌÊÔ-35Â-1321
designator C?  (value not drawn)
Value: *
footprint Ê50-35-1320_K5035-1R
footprint Ê50-35-1320_K5035-1R1
footprint Ê50-35-1320_Primary
pins: 1, 2

## Ê50-35-1000ÌÊÔ-35Â-1321-Ã
designator C?  (value not drawn)
Value: *
footprint Ê50-35-13XX-Ã_K5035-1R
footprint Ê50-35-13XX-Ã_K5035-1R1
footprint Ê50-35-13XX-Ã_Primary
pins: 1, 2

## Ê50-35-1000ÌÊÔ-35Â-1324
designator C?  (value not drawn)
Value: *
footprint Ê50-35-1320_K5035-1R
footprint Ê50-35-1320_K5035-1R1
footprint Ê50-35-1320_Primary
pins: 1, 2

## Ê50-35-1000ÌÊÔ-35Â-1324-Ã
designator C?  (value not drawn)
Value: *
footprint Ê50-35-13XX-Ã_K5035-1R
footprint Ê50-35-13XX-Ã_K5035-1R1
footprint Ê50-35-13XX-Ã_Primary
pins: 1, 2

## Ê50-35-1000ÌÊÔ-50Â-1325-Ã
designator C?  (value not drawn)
Value: *
footprint Ê50-35-13XX-Ã_K5035-1R
footprint Ê50-35-13XX-Ã_K5035-1R1
footprint Ê50-35-13XX-Ã_Primary
pins: 1, 2

## Ê50-35-1000ÌÊÔ-50Â-1625
designator C?  (value not drawn)
Value: *
footprint Ê50-35-1625_K5035-1R
footprint Ê50-35-1625_K5035-1R1
footprint Ê50-35-1625_Primary
pins: 1, 2

## Ê50-35-1000ÌÊÔ-50Â-1625-Ã
designator C?  (value not drawn)
Value: *
footprint Ê50-35-16XX-Ã_K5035-1R
footprint Ê50-35-16XX-Ã_K5035-1R1
footprint Ê50-35-16XX-Ã_Primary
pins: 1, 2

## Ê50-35-1000ÌÊÔ-63Â-1625
designator C?  (value not drawn)
Value: *
footprint Ê50-35-1625_K5035-1R
footprint Ê50-35-1625_K5035-1R1
footprint Ê50-35-1625_Primary
pins: 1, 2

## Ê50-35-1000ÌÊÔ-63Â-1625-Ã
designator C?  (value not drawn)
Value: *
footprint Ê50-35-16XX-Ã_K5035-1R
footprint Ê50-35-16XX-Ã_K5035-1R1
footprint Ê50-35-16XX-Ã_Primary
pins: 1, 2

## Ê50-35-1000ÌÊÔ-63Â-1635
designator C?  (value not drawn)
Value: *
footprint Ê50-35-1625_K5035-1R
footprint Ê50-35-1625_K5035-1R1
footprint Ê50-35-1625_Primary
pins: 1, 2

## Ê50-35-1000ÌÊÔ-63Â-1635-Ã
designator C?  (value not drawn)
Value: *
footprint Ê50-35-16XX-Ã_K5035-1R
footprint Ê50-35-16XX-Ã_K5035-1R1
footprint Ê50-35-16XX-Ã_Primary
pins: 1, 2

## Ê50-35-1000ÌÊÔ-100Â-1836-Ã
designator C?  (value not drawn)
Value: *
footprint Ê50-35-18XX-Ã_K5035-1R
footprint Ê50-35-18XX-Ã_K5035-1R1
footprint Ê50-35-18XX-Ã_Primary
pins: 1, 2

## Ê50-35-1000ÌÊÔ-100Â-1842
designator C?  (value not drawn)
Value: *
footprint Ê50-35-1835_K5035-1R
footprint Ê50-35-1835_K5035-1R1
footprint Ê50-35-1835_Primary
pins: 1, 2

## Ê50-35-1000ÌÊÔ-100Â-2235
designator C?  (value not drawn)
Value: *
footprint Ê50-35-2240_K5035-1R
footprint Ê50-35-2240_K5035-1R1
footprint Ê50-35-2240_Primary
pins: 1, 2

## Ê50-35-1000ÌÊÔ-250Â-2640-Ã
designator C?  (value not drawn)
Value: *
footprint Ê50-35-26XX-Ã_K5035-1R
footprint Ê50-35-26XX-Ã_K5035-1R1
footprint Ê50-35-26XX-Ã_Primary
pins: 1, 2

## Ê50-35-2200ÌÊÔ-6,3Â-1020
designator C?  (value not drawn)
Value: *
footprint Ê50-35-1020_K5035-1R
footprint Ê50-35-1020_K5035-1R1
footprint Ê50-35-1020_Primary
pins: 1, 2

## Ê50-35-2200ÌÊÔ-6,3Â-1020-Ã
designator C?  (value not drawn)
Value: *
footprint Ê50-35-1020-Ã_K5035-1R
footprint Ê50-35-1020-Ã_K5035-1R1
footprint Ê50-35-1020-Ã_Primary
pins: 1, 2

## Ê50-35-2200ÌÊÔ-6Â-0812-Ã
designator C?  (value not drawn)
Value: *
footprint Ê50-35-1020-Ã_K5035-1R
footprint Ê50-35-1020-Ã_K5035-1R1
footprint Ê50-35-1020-Ã_Primary
pins: 1, 2

## Ê50-35-2200ÌÊÔ-10Â-1020
designator C?  (value not drawn)
Value: *
footprint Ê50-35-1020_K5035-1R
footprint Ê50-35-1020_K5035-1R1
footprint Ê50-35-1020_Primary
pins: 1, 2

## Ê50-35-2200ÌÊÔ-10Â-1020-Ã
designator C?  (value not drawn)
Value: *
footprint Ê50-35-1020-Ã_K5035-1R
footprint Ê50-35-1020-Ã_K5035-1R1
footprint Ê50-35-1020-Ã_Primary
pins: 1, 2

## Ê50-35-2200ÌÊÔ-16Â-1320
designator C?  (value not drawn)
Value: *
footprint Ê50-35-1320_K5035-1R
footprint Ê50-35-1320_K5035-1R1
footprint Ê50-35-1320_Primary
pins: 1, 2

## Ê50-35-2200ÌÊÔ-16Â-1320-Ã
designator C?  (value not drawn)
Value: *
footprint Ê50-35-13XX-Ã_K5035-1R
footprint Ê50-35-13XX-Ã_K5035-1R1
footprint Ê50-35-13XX-Ã_Primary
pins: 1, 2

## Ê50-35-2200ÌÊÔ-16Â-1326
designator C?  (value not drawn)
Value: *
footprint Ê50-35-1320_K5035-1R
footprint Ê50-35-1320_K5035-1R1
footprint Ê50-35-1320_Primary
pins: 1, 2

## Ê50-35-2200ÌÊÔ-16Â-1326-Ã
designator C?  (value not drawn)
Value: *
footprint Ê50-35-13XX-Ã_K5035-1R
footprint Ê50-35-13XX-Ã_K5035-1R1
footprint Ê50-35-13XX-Ã_Primary
pins: 1, 2

## Ê50-35-2200ÌÊÔ-25Â-1321
designator C?  (value not drawn)
Value: *
footprint Ê50-35-1320_K5035-1R
footprint Ê50-35-1320_K5035-1R1
footprint Ê50-35-1320_Primary
pins: 1, 2

## Ê50-35-2200ÌÊÔ-25Â-1321-Ã
designator C?  (value not drawn)
Value: *
footprint Ê50-35-13XX-Ã_K5035-1R
footprint Ê50-35-13XX-Ã_K5035-1R1
footprint Ê50-35-13XX-Ã_Primary
pins: 1, 2

## Ê50-35-2200ÌÊÔ-25Â-1326
designator C?  (value not drawn)
Value: *
footprint Ê50-35-1320_K5035-1R
footprint Ê50-35-1320_K5035-1R1
footprint Ê50-35-1320_Primary
pins: 1, 2

## Ê50-35-2200ÌÊÔ-25Â-1326-Ã
designator C?  (value not drawn)
Value: *
footprint Ê50-35-13XX-Ã_K5035-1R
footprint Ê50-35-13XX-Ã_K5035-1R1
footprint Ê50-35-13XX-Ã_Primary
pins: 1, 2

## Ê50-35-2200ÌÊÔ-25Â-1625
designator C?  (value not drawn)
Value: *
footprint Ê50-35-1625_K5035-1R
footprint Ê50-35-1625_K5035-1R1
footprint Ê50-35-1625_Primary
pins: 1, 2

## Ê50-35-2200ÌÊÔ-25Â-1625-Ã
designator C?  (value not drawn)
Value: *
footprint Ê50-35-16XX-Ã_K5035-1R
footprint Ê50-35-16XX-Ã_K5035-1R1
footprint Ê50-35-16XX-Ã_Primary
pins: 1, 2

## Ê50-35-2200ÌÊÔ-35Â-1626
designator C?  (value not drawn)
Value: *
footprint Ê50-35-1625_K5035-1R
footprint Ê50-35-1625_K5035-1R1
footprint Ê50-35-1625_Primary
pins: 1, 2

## Ê50-35-2200ÌÊÔ-35Â-1626-Ã
designator C?  (value not drawn)
Value: *
footprint Ê50-35-16XX-Ã_K5035-1R
footprint Ê50-35-16XX-Ã_K5035-1R1
footprint Ê50-35-16XX-Ã_Primary
pins: 1, 2

## Ê50-35-2200ÌÊÔ-35Â-1631
designator C?  (value not drawn)
Value: *
footprint Ê50-35-1625_K5035-1R
footprint Ê50-35-1625_K5035-1R1
footprint Ê50-35-1625_Primary
pins: 1, 2

## Ê50-35-2200ÌÊÔ-35Â-1631-Ã
designator C?  (value not drawn)
Value: *
footprint Ê50-35-16XX-Ã_K5035-1R
footprint Ê50-35-16XX-Ã_K5035-1R1
footprint Ê50-35-16XX-Ã_Primary
pins: 1, 2

## Ê50-35-2200ÌÊÔ-50Â-1636
designator C?  (value not drawn)
Value: *
footprint Ê50-35-1625_K5035-1R
footprint Ê50-35-1625_K5035-1R1
footprint Ê50-35-1625_Primary
pins: 1, 2

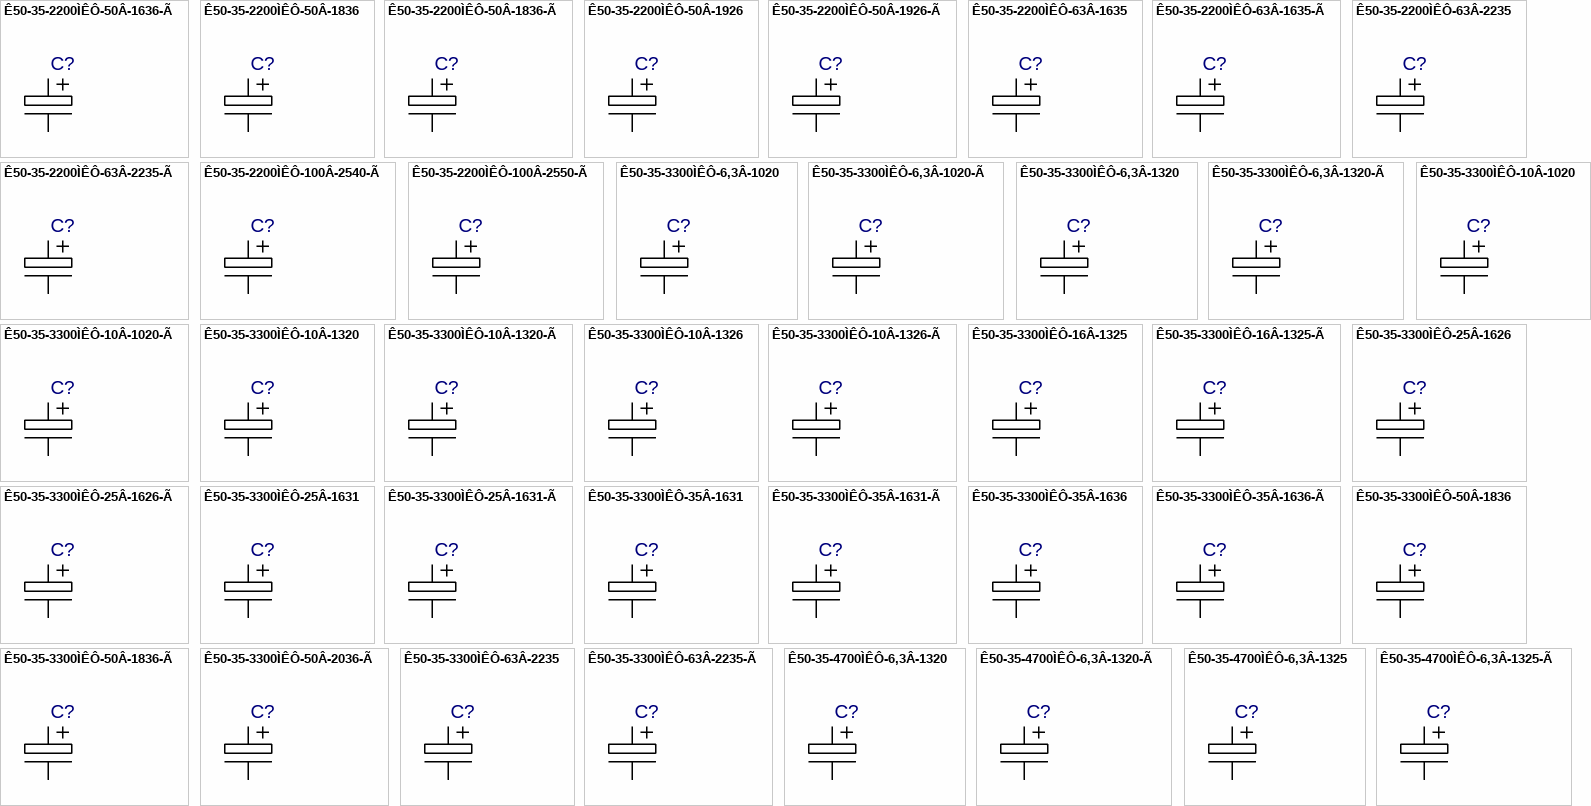
[diagram p34: symbols Ê50-35-2200ÌÊÔ-50Â-1636-Ã to Ê50-35-4700ÌÊÔ-6,3Â-1325-Ã]

## Ê50-35-2200ÌÊÔ-50Â-1636-Ã
designator C?  (value not drawn)
Value: *
footprint Ê50-35-16XX-Ã_K5035-1R
footprint Ê50-35-16XX-Ã_K5035-1R1
footprint Ê50-35-16XX-Ã_Primary
pins: 1, 2

## Ê50-35-2200ÌÊÔ-50Â-1836
designator C?  (value not drawn)
Value: *
footprint Ê50-35-1835_K5035-1R
footprint Ê50-35-1835_K5035-1R1
footprint Ê50-35-1835_Primary
pins: 1, 2

## Ê50-35-2200ÌÊÔ-50Â-1836-Ã
designator C?  (value not drawn)
Value: *
footprint Ê50-35-18XX-Ã_K5035-1R
footprint Ê50-35-18XX-Ã_K5035-1R1
footprint Ê50-35-18XX-Ã_Primary
pins: 1, 2

## Ê50-35-2200ÌÊÔ-50Â-1926
designator C?  (value not drawn)
Value: *
footprint Ê50-35-1926_K5035-1R
footprint Ê50-35-1926_K5035-1R1
footprint Ê50-35-1926_Primary
pins: 1, 2

## Ê50-35-2200ÌÊÔ-50Â-1926-Ã
designator C?  (value not drawn)
Value: *
footprint Ê50-35-1926-Ã_K5035-1R
footprint Ê50-35-1926-Ã_K5035-1R1
footprint Ê50-35-1926-Ã_Primary
pins: 1, 2

## Ê50-35-2200ÌÊÔ-63Â-1635
designator C?  (value not drawn)
Value: *
footprint Ê50-35-1625_K5035-1R
footprint Ê50-35-1625_K5035-1R1
footprint Ê50-35-1625_Primary
pins: 1, 2

## Ê50-35-2200ÌÊÔ-63Â-1635-Ã
designator C?  (value not drawn)
Value: *
footprint Ê50-35-16XX-Ã_K5035-1R
footprint Ê50-35-16XX-Ã_K5035-1R1
footprint Ê50-35-16XX-Ã_Primary
pins: 1, 2

## Ê50-35-2200ÌÊÔ-63Â-2235
designator C?  (value not drawn)
Value: *
footprint Ê50-35-2240_K5035-1R
footprint Ê50-35-2240_K5035-1R1
footprint Ê50-35-2240_Primary
pins: 1, 2

## Ê50-35-2200ÌÊÔ-63Â-2235-Ã
designator C?  (value not drawn)
Value: *
footprint Ê50-35-22XX-Ã_K5035-1R
footprint Ê50-35-22XX-Ã_K5035-1R1
footprint Ê50-35-22XX-Ã_Primary
pins: 1, 2

## Ê50-35-2200ÌÊÔ-100Â-2540-Ã
designator C?  (value not drawn)
Value: *
footprint Ê50-35-25XX-Ã_K5035-1R
footprint Ê50-35-25XX-Ã_K5035-1R1
footprint Ê50-35-25XX-Ã_Primary
pins: 1, 2

## Ê50-35-2200ÌÊÔ-100Â-2550-Ã
designator C?  (value not drawn)
Value: *
footprint Ê50-35-25XX-Ã_K5035-1R
footprint Ê50-35-25XX-Ã_K5035-1R1
footprint Ê50-35-25XX-Ã_Primary
pins: 1, 2

## Ê50-35-3300ÌÊÔ-6,3Â-1020
designator C?  (value not drawn)
Value: *
footprint Ê50-35-1020_K5035-1R
footprint Ê50-35-1020_K5035-1R1
footprint Ê50-35-1020_Primary
pins: 1, 2

## Ê50-35-3300ÌÊÔ-6,3Â-1020-Ã
designator C?  (value not drawn)
Value: *
footprint Ê50-35-1020-Ã_K5035-1R
footprint Ê50-35-1020-Ã_K5035-1R1
footprint Ê50-35-1020-Ã_Primary
pins: 1, 2

## Ê50-35-3300ÌÊÔ-6,3Â-1320
designator C?  (value not drawn)
Value: *
footprint Ê50-35-1320_K5035-1R
footprint Ê50-35-1320_K5035-1R1
footprint Ê50-35-1320_Primary
pins: 1, 2

## Ê50-35-3300ÌÊÔ-6,3Â-1320-Ã
designator C?  (value not drawn)
Value: *
footprint Ê50-35-13XX-Ã_K5035-1R
footprint Ê50-35-13XX-Ã_K5035-1R1
footprint Ê50-35-13XX-Ã_Primary
pins: 1, 2

## Ê50-35-3300ÌÊÔ-10Â-1020
designator C?  (value not drawn)
Value: *
footprint Ê50-35-1020_K5035-1R
footprint Ê50-35-1020_K5035-1R1
footprint Ê50-35-1020_Primary
pins: 1, 2

## Ê50-35-3300ÌÊÔ-10Â-1020-Ã
designator C?  (value not drawn)
Value: *
footprint Ê50-35-1020-Ã_K5035-1R
footprint Ê50-35-1020-Ã_K5035-1R1
footprint Ê50-35-1020-Ã_Primary
pins: 1, 2

## Ê50-35-3300ÌÊÔ-10Â-1320
designator C?  (value not drawn)
Value: *
footprint Ê50-35-1320_K5035-1R
footprint Ê50-35-1320_K5035-1R1
footprint Ê50-35-1320_Primary
pins: 1, 2

## Ê50-35-3300ÌÊÔ-10Â-1320-Ã
designator C?  (value not drawn)
Value: *
footprint Ê50-35-13XX-Ã_K5035-1R
footprint Ê50-35-13XX-Ã_K5035-1R1
footprint Ê50-35-13XX-Ã_Primary
pins: 1, 2

## Ê50-35-3300ÌÊÔ-10Â-1326
designator C?  (value not drawn)
Value: *
footprint Ê50-35-1320_K5035-1R
footprint Ê50-35-1320_K5035-1R1
footprint Ê50-35-1320_Primary
pins: 1, 2

## Ê50-35-3300ÌÊÔ-10Â-1326-Ã
designator C?  (value not drawn)
Value: *
footprint Ê50-35-13XX-Ã_K5035-1R
footprint Ê50-35-13XX-Ã_K5035-1R1
footprint Ê50-35-13XX-Ã_Primary
pins: 1, 2

## Ê50-35-3300ÌÊÔ-16Â-1325
designator C?  (value not drawn)
Value: *
footprint Ê50-35-1320_K5035-1R
footprint Ê50-35-1320_K5035-1R1
footprint Ê50-35-1320_Primary
pins: 1, 2

## Ê50-35-3300ÌÊÔ-16Â-1325-Ã
designator C?  (value not drawn)
Value: *
footprint Ê50-35-13XX-Ã_K5035-1R
footprint Ê50-35-13XX-Ã_K5035-1R1
footprint Ê50-35-13XX-Ã_Primary
pins: 1, 2

## Ê50-35-3300ÌÊÔ-25Â-1626
designator C?  (value not drawn)
Value: *
footprint Ê50-35-1625_K5035-1R
footprint Ê50-35-1625_K5035-1R1
footprint Ê50-35-1625_Primary
pins: 1, 2

## Ê50-35-3300ÌÊÔ-25Â-1626-Ã
designator C?  (value not drawn)
Value: *
footprint Ê50-35-16XX-Ã_K5035-1R
footprint Ê50-35-16XX-Ã_K5035-1R1
footprint Ê50-35-16XX-Ã_Primary
pins: 1, 2

## Ê50-35-3300ÌÊÔ-25Â-1631
designator C?  (value not drawn)
Value: *
footprint Ê50-35-1625_K5035-1R
footprint Ê50-35-1625_K5035-1R1
footprint Ê50-35-1625_Primary
pins: 1, 2

## Ê50-35-3300ÌÊÔ-25Â-1631-Ã
designator C?  (value not drawn)
Value: *
footprint Ê50-35-16XX-Ã_K5035-1R
footprint Ê50-35-16XX-Ã_K5035-1R1
footprint Ê50-35-16XX-Ã_Primary
pins: 1, 2

## Ê50-35-3300ÌÊÔ-35Â-1631
designator C?  (value not drawn)
Value: *
footprint Ê50-35-1625_K5035-1R
footprint Ê50-35-1625_K5035-1R1
footprint Ê50-35-1625_Primary
pins: 1, 2

## Ê50-35-3300ÌÊÔ-35Â-1631-Ã
designator C?  (value not drawn)
Value: *
footprint Ê50-35-16XX-Ã_K5035-1R
footprint Ê50-35-16XX-Ã_K5035-1R1
footprint Ê50-35-16XX-Ã_Primary
pins: 1, 2

## Ê50-35-3300ÌÊÔ-35Â-1636
designator C?  (value not drawn)
Value: *
footprint Ê50-35-1625_K5035-1R
footprint Ê50-35-1625_K5035-1R1
footprint Ê50-35-1625_Primary
pins: 1, 2

## Ê50-35-3300ÌÊÔ-35Â-1636-Ã
designator C?  (value not drawn)
Value: *
footprint Ê50-35-16XX-Ã_K5035-1R
footprint Ê50-35-16XX-Ã_K5035-1R1
footprint Ê50-35-16XX-Ã_Primary
pins: 1, 2

## Ê50-35-3300ÌÊÔ-50Â-1836
designator C?  (value not drawn)
Value: *
footprint Ê50-35-1835_K5035-1R
footprint Ê50-35-1835_K5035-1R1
footprint Ê50-35-1835_Primary
pins: 1, 2

## Ê50-35-3300ÌÊÔ-50Â-1836-Ã
designator C?  (value not drawn)
Value: *
footprint Ê50-35-18XX-Ã_K5035-1R
footprint Ê50-35-18XX-Ã_K5035-1R1
footprint Ê50-35-18XX-Ã_Primary
pins: 1, 2

## Ê50-35-3300ÌÊÔ-50Â-2036-Ã
designator C?  (value not drawn)
Value: *
footprint Ê50-35-20XX-Ã_K5035-1R
footprint Ê50-35-20XX-Ã_K5035-1R1
footprint Ê50-35-20XX-Ã_Primary
pins: 1, 2

## Ê50-35-3300ÌÊÔ-63Â-2235
designator C?  (value not drawn)
Value: *
footprint Ê50-35-2240_K5035-1R
footprint Ê50-35-2240_K5035-1R1
footprint Ê50-35-2240_Primary
pins: 1, 2

## Ê50-35-3300ÌÊÔ-63Â-2235-Ã
designator C?  (value not drawn)
Value: *
footprint Ê50-35-22XX-Ã_K5035-1R
footprint Ê50-35-22XX-Ã_K5035-1R1
footprint Ê50-35-22XX-Ã_Primary
pins: 1, 2

## Ê50-35-4700ÌÊÔ-6,3Â-1320
designator C?  (value not drawn)
Value: *
footprint Ê50-35-1320_K5035-1R
footprint Ê50-35-1320_K5035-1R1
footprint Ê50-35-1320_Primary
pins: 1, 2

## Ê50-35-4700ÌÊÔ-6,3Â-1320-Ã
designator C?  (value not drawn)
Value: *
footprint Ê50-35-13XX-Ã_K5035-1R
footprint Ê50-35-13XX-Ã_K5035-1R1
footprint Ê50-35-13XX-Ã_Primary
pins: 1, 2

## Ê50-35-4700ÌÊÔ-6,3Â-1325
designator C?  (value not drawn)
Value: *
footprint Ê50-35-1320_K5035-1R
footprint Ê50-35-1320_K5035-1R1
footprint Ê50-35-1320_Primary
pins: 1, 2

## Ê50-35-4700ÌÊÔ-6,3Â-1325-Ã
designator C?  (value not drawn)
Value: *
footprint Ê50-35-13XX-Ã_K5035-1R
footprint Ê50-35-13XX-Ã_K5035-1R1
footprint Ê50-35-13XX-Ã_Primary
pins: 1, 2

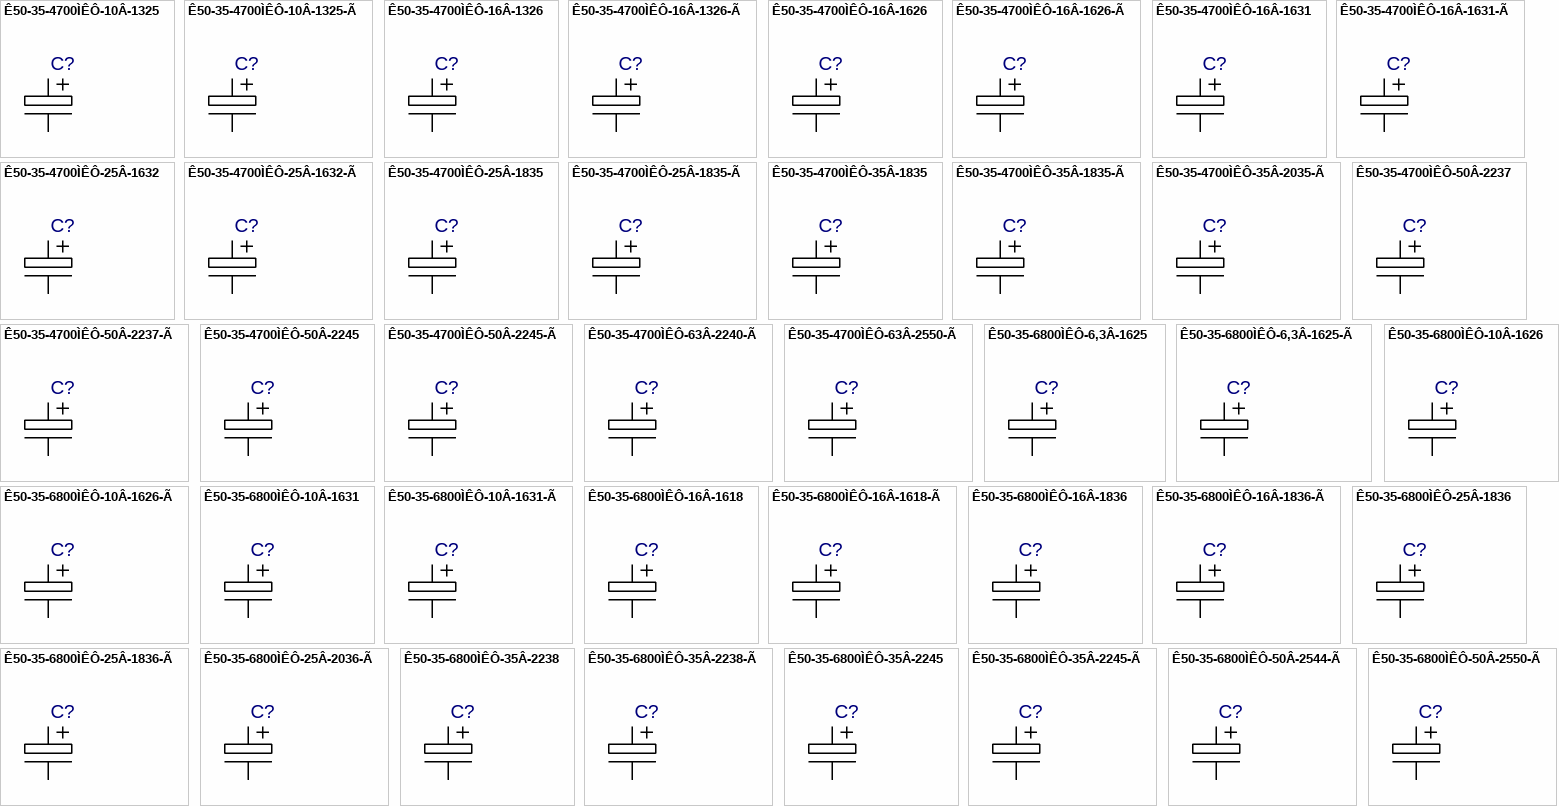
[diagram p35: symbols Ê50-35-4700ÌÊÔ-10Â-1325 to Ê50-35-6800ÌÊÔ-50Â-2550-Ã]

## Ê50-35-4700ÌÊÔ-10Â-1325
designator C?  (value not drawn)
Value: *
footprint Ê50-35-1320_K5035-1R
footprint Ê50-35-1320_K5035-1R1
footprint Ê50-35-1320_Primary
pins: 1, 2

## Ê50-35-4700ÌÊÔ-10Â-1325-Ã
designator C?  (value not drawn)
Value: *
footprint Ê50-35-13XX-Ã_K5035-1R
footprint Ê50-35-13XX-Ã_K5035-1R1
footprint Ê50-35-13XX-Ã_Primary
pins: 1, 2

## Ê50-35-4700ÌÊÔ-16Â-1326
designator C?  (value not drawn)
Value: *
footprint Ê50-35-1320_K5035-1R
footprint Ê50-35-1320_K5035-1R1
footprint Ê50-35-1320_Primary
pins: 1, 2

## Ê50-35-4700ÌÊÔ-16Â-1326-Ã
designator C?  (value not drawn)
Value: *
footprint Ê50-35-13XX-Ã_K5035-1R
footprint Ê50-35-13XX-Ã_K5035-1R1
footprint Ê50-35-13XX-Ã_Primary
pins: 1, 2

## Ê50-35-4700ÌÊÔ-16Â-1626
designator C?  (value not drawn)
Value: *
footprint Ê50-35-1625_K5035-1R
footprint Ê50-35-1625_K5035-1R1
footprint Ê50-35-1625_Primary
pins: 1, 2

## Ê50-35-4700ÌÊÔ-16Â-1626-Ã
designator C?  (value not drawn)
Value: *
footprint Ê50-35-16XX-Ã_K5035-1R
footprint Ê50-35-16XX-Ã_K5035-1R1
footprint Ê50-35-16XX-Ã_Primary
pins: 1, 2

## Ê50-35-4700ÌÊÔ-16Â-1631
designator C?  (value not drawn)
Value: *
footprint Ê50-35-1625_K5035-1R
footprint Ê50-35-1625_K5035-1R1
footprint Ê50-35-1625_Primary
pins: 1, 2

## Ê50-35-4700ÌÊÔ-16Â-1631-Ã
designator C?  (value not drawn)
Value: *
footprint Ê50-35-16XX-Ã_K5035-1R
footprint Ê50-35-16XX-Ã_K5035-1R1
footprint Ê50-35-16XX-Ã_Primary
pins: 1, 2

## Ê50-35-4700ÌÊÔ-25Â-1632
designator C?  (value not drawn)
Value: *
footprint Ê50-35-1625_K5035-1R
footprint Ê50-35-1625_K5035-1R1
footprint Ê50-35-1625_Primary
pins: 1, 2

## Ê50-35-4700ÌÊÔ-25Â-1632-Ã
designator C?  (value not drawn)
Value: *
footprint Ê50-35-16XX-Ã_K5035-1R
footprint Ê50-35-16XX-Ã_K5035-1R1
footprint Ê50-35-16XX-Ã_Primary
pins: 1, 2

## Ê50-35-4700ÌÊÔ-25Â-1835
designator C?  (value not drawn)
Value: *
footprint Ê50-35-1835_K5035-1R
footprint Ê50-35-1835_K5035-1R1
footprint Ê50-35-1835_Primary
pins: 1, 2

## Ê50-35-4700ÌÊÔ-25Â-1835-Ã
designator C?  (value not drawn)
Value: *
footprint Ê50-35-18XX-Ã_K5035-1R
footprint Ê50-35-18XX-Ã_K5035-1R1
footprint Ê50-35-18XX-Ã_Primary
pins: 1, 2

## Ê50-35-4700ÌÊÔ-35Â-1835
designator C?  (value not drawn)
Value: *
footprint Ê50-35-1835_K5035-1R
footprint Ê50-35-1835_K5035-1R1
footprint Ê50-35-1835_Primary
pins: 1, 2

## Ê50-35-4700ÌÊÔ-35Â-1835-Ã
designator C?  (value not drawn)
Value: *
footprint Ê50-35-18XX-Ã_K5035-1R
footprint Ê50-35-18XX-Ã_K5035-1R1
footprint Ê50-35-18XX-Ã_Primary
pins: 1, 2

## Ê50-35-4700ÌÊÔ-35Â-2035-Ã
designator C?  (value not drawn)
Value: *
footprint Ê50-35-20XX-Ã_K5035-1R
footprint Ê50-35-20XX-Ã_K5035-1R1
footprint Ê50-35-20XX-Ã_Primary
pins: 1, 2

## Ê50-35-4700ÌÊÔ-50Â-2237
designator C?  (value not drawn)
Value: *
footprint Ê50-35-2240_K5035-1R
footprint Ê50-35-2240_K5035-1R1
footprint Ê50-35-2240_Primary
pins: 1, 2

## Ê50-35-4700ÌÊÔ-50Â-2237-Ã
designator C?  (value not drawn)
Value: *
footprint Ê50-35-22XX-Ã_K5035-1R
footprint Ê50-35-22XX-Ã_K5035-1R1
footprint Ê50-35-22XX-Ã_Primary
pins: 1, 2

## Ê50-35-4700ÌÊÔ-50Â-2245
designator C?  (value not drawn)
Value: *
footprint Ê50-35-2240_K5035-1R
footprint Ê50-35-2240_K5035-1R1
footprint Ê50-35-2240_Primary
pins: 1, 2

## Ê50-35-4700ÌÊÔ-50Â-2245-Ã
designator C?  (value not drawn)
Value: *
footprint Ê50-35-22XX-Ã_K5035-1R
footprint Ê50-35-22XX-Ã_K5035-1R1
footprint Ê50-35-22XX-Ã_Primary
pins: 1, 2

## Ê50-35-4700ÌÊÔ-63Â-2240-Ã
designator C?  (value not drawn)
Value: *
footprint Ê50-35-22XX-Ã_K5035-1R
footprint Ê50-35-22XX-Ã_K5035-1R1
footprint Ê50-35-22XX-Ã_Primary
pins: 1, 2

## Ê50-35-4700ÌÊÔ-63Â-2550-Ã
designator C?  (value not drawn)
Value: *
footprint Ê50-35-25XX-Ã_K5035-1R
footprint Ê50-35-25XX-Ã_K5035-1R1
footprint Ê50-35-25XX-Ã_Primary
pins: 1, 2

## Ê50-35-6800ÌÊÔ-6,3Â-1625
designator C?  (value not drawn)
Value: *
footprint Ê50-35-1625_K5035-1R
footprint Ê50-35-1625_K5035-1R1
footprint Ê50-35-1625_Primary
pins: 1, 2

## Ê50-35-6800ÌÊÔ-6,3Â-1625-Ã
designator C?  (value not drawn)
Value: *
footprint Ê50-35-16XX-Ã_K5035-1R
footprint Ê50-35-16XX-Ã_K5035-1R1
footprint Ê50-35-16XX-Ã_Primary
pins: 1, 2

## Ê50-35-6800ÌÊÔ-10Â-1626
designator C?  (value not drawn)
Value: *
footprint Ê50-35-1625_K5035-1R
footprint Ê50-35-1625_K5035-1R1
footprint Ê50-35-1625_Primary
pins: 1, 2

## Ê50-35-6800ÌÊÔ-10Â-1626-Ã
designator C?  (value not drawn)
Value: *
footprint Ê50-35-16XX-Ã_K5035-1R
footprint Ê50-35-16XX-Ã_K5035-1R1
footprint Ê50-35-16XX-Ã_Primary
pins: 1, 2

## Ê50-35-6800ÌÊÔ-10Â-1631
designator C?  (value not drawn)
Value: *
footprint Ê50-35-1625_K5035-1R
footprint Ê50-35-1625_K5035-1R1
footprint Ê50-35-1625_Primary
pins: 1, 2

## Ê50-35-6800ÌÊÔ-10Â-1631-Ã
designator C?  (value not drawn)
Value: *
footprint Ê50-35-16XX-Ã_K5035-1R
footprint Ê50-35-16XX-Ã_K5035-1R1
footprint Ê50-35-16XX-Ã_Primary
pins: 1, 2

## Ê50-35-6800ÌÊÔ-16Â-1618
designator C?  (value not drawn)
Value: *
footprint Ê50-35-1625_K5035-1R
footprint Ê50-35-1625_K5035-1R1
footprint Ê50-35-1625_Primary
pins: 1, 2

## Ê50-35-6800ÌÊÔ-16Â-1618-Ã
designator C?  (value not drawn)
Value: *
footprint Ê50-35-16XX-Ã_K5035-1R
footprint Ê50-35-16XX-Ã_K5035-1R1
footprint Ê50-35-16XX-Ã_Primary
pins: 1, 2

## Ê50-35-6800ÌÊÔ-16Â-1836
designator C?  (value not drawn)
Value: *
footprint Ê50-35-1835_K5035-1R
footprint Ê50-35-1835_K5035-1R1
footprint Ê50-35-1835_Primary
pins: 1, 2

## Ê50-35-6800ÌÊÔ-16Â-1836-Ã
designator C?  (value not drawn)
Value: *
footprint Ê50-35-18XX-Ã_K5035-1R
footprint Ê50-35-18XX-Ã_K5035-1R1
footprint Ê50-35-18XX-Ã_Primary
pins: 1, 2

## Ê50-35-6800ÌÊÔ-25Â-1836
designator C?  (value not drawn)
Value: *
footprint Ê50-35-1835_K5035-1R
footprint Ê50-35-1835_K5035-1R1
footprint Ê50-35-1835_Primary
pins: 1, 2

## Ê50-35-6800ÌÊÔ-25Â-1836-Ã
designator C?  (value not drawn)
Value: *
footprint Ê50-35-18XX-Ã_K5035-1R
footprint Ê50-35-18XX-Ã_K5035-1R1
footprint Ê50-35-18XX-Ã_Primary
pins: 1, 2

## Ê50-35-6800ÌÊÔ-25Â-2036-Ã
designator C?  (value not drawn)
Value: *
footprint Ê50-35-20XX-Ã_K5035-1R
footprint Ê50-35-20XX-Ã_K5035-1R1
footprint Ê50-35-20XX-Ã_Primary
pins: 1, 2

## Ê50-35-6800ÌÊÔ-35Â-2238
designator C?  (value not drawn)
Value: *
footprint Ê50-35-2240_K5035-1R
footprint Ê50-35-2240_K5035-1R1
footprint Ê50-35-2240_Primary
pins: 1, 2

## Ê50-35-6800ÌÊÔ-35Â-2238-Ã
designator C?  (value not drawn)
Value: *
footprint Ê50-35-22XX-Ã_K5035-1R
footprint Ê50-35-22XX-Ã_K5035-1R1
footprint Ê50-35-22XX-Ã_Primary
pins: 1, 2

## Ê50-35-6800ÌÊÔ-35Â-2245
designator C?  (value not drawn)
Value: *
footprint Ê50-35-2240_K5035-1R
footprint Ê50-35-2240_K5035-1R1
footprint Ê50-35-2240_Primary
pins: 1, 2

## Ê50-35-6800ÌÊÔ-35Â-2245-Ã
designator C?  (value not drawn)
Value: *
footprint Ê50-35-22XX-Ã_K5035-1R
footprint Ê50-35-22XX-Ã_K5035-1R1
footprint Ê50-35-22XX-Ã_Primary
pins: 1, 2

## Ê50-35-6800ÌÊÔ-50Â-2544-Ã
designator C?  (value not drawn)
Value: *
footprint Ê50-35-25XX-Ã_K5035-1R
footprint Ê50-35-25XX-Ã_K5035-1R1
footprint Ê50-35-25XX-Ã_Primary
pins: 1, 2

## Ê50-35-6800ÌÊÔ-50Â-2550-Ã
designator C?  (value not drawn)
Value: *
footprint Ê50-35-25XX-Ã_K5035-1R
footprint Ê50-35-25XX-Ã_K5035-1R1
footprint Ê50-35-25XX-Ã_Primary
pins: 1, 2

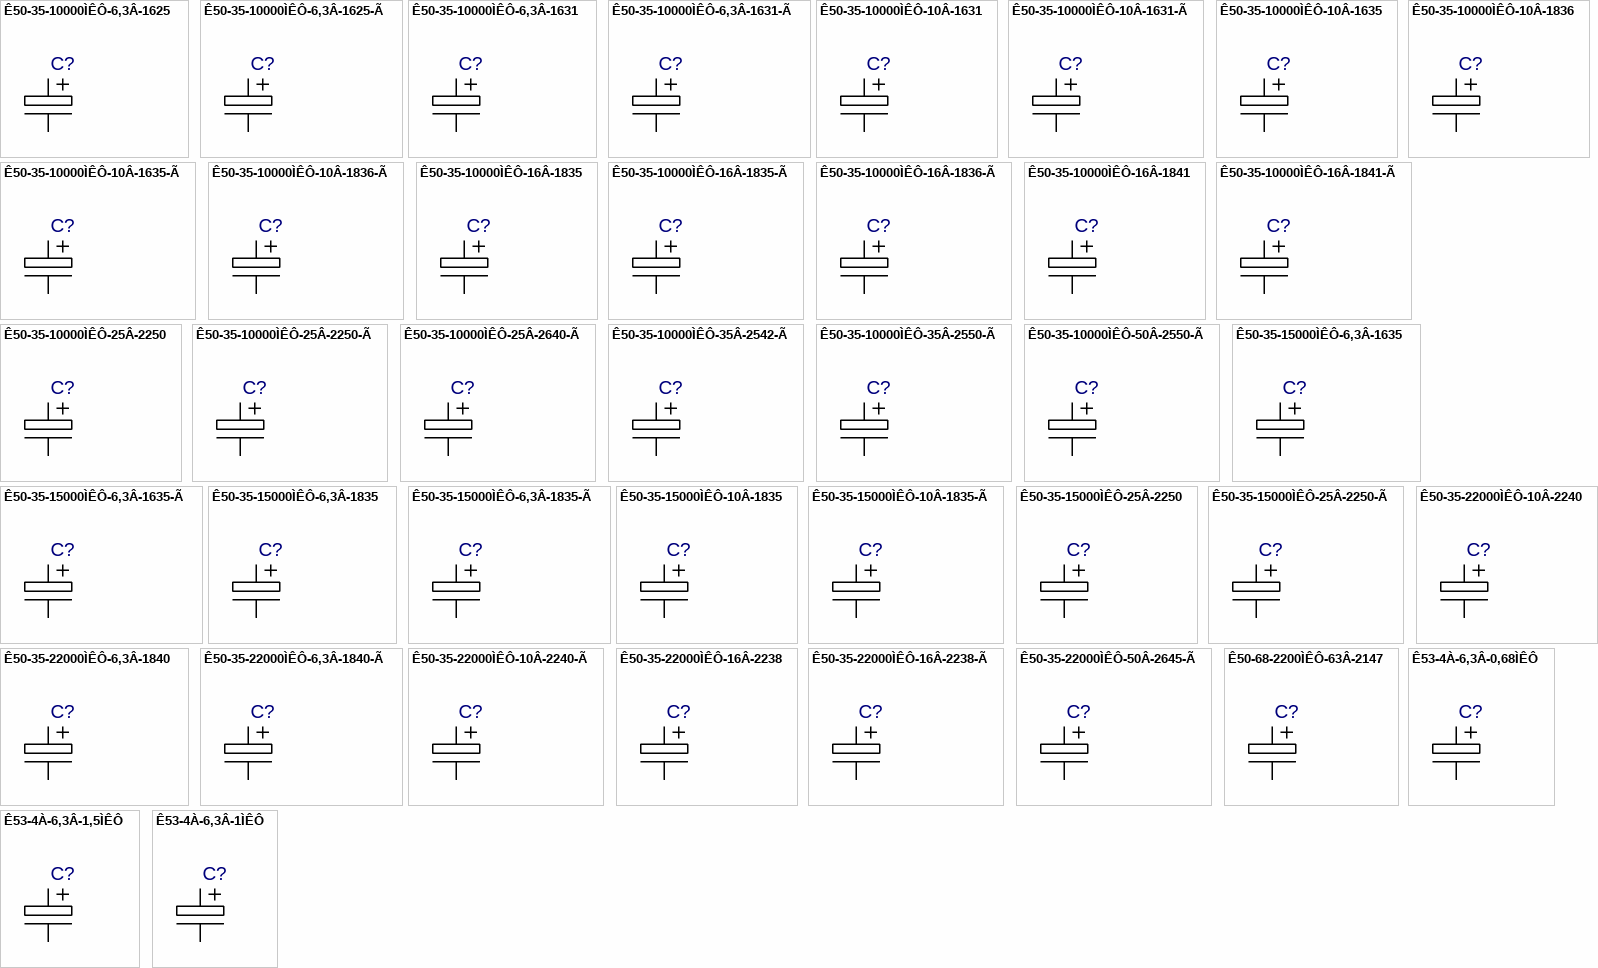
[diagram p36: symbols Ê50-35-10000ÌÊÔ-6,3Â-1625 to Ê53-4À-6,3Â-1ÌÊÔ]

## Ê50-35-10000ÌÊÔ-6,3Â-1625
designator C?  (value not drawn)
Value: *
footprint Ê50-35-1625_K5035-1R
footprint Ê50-35-1625_K5035-1R1
footprint Ê50-35-1625_Primary
pins: 1, 2

## Ê50-35-10000ÌÊÔ-6,3Â-1625-Ã
designator C?  (value not drawn)
Value: *
footprint Ê50-35-16XX-Ã_K5035-1R
footprint Ê50-35-16XX-Ã_K5035-1R1
footprint Ê50-35-16XX-Ã_Primary
pins: 1, 2

## Ê50-35-10000ÌÊÔ-6,3Â-1631
designator C?  (value not drawn)
Value: *
footprint Ê50-35-1625_K5035-1R
footprint Ê50-35-1625_K5035-1R1
footprint Ê50-35-1625_Primary
pins: 1, 2

## Ê50-35-10000ÌÊÔ-6,3Â-1631-Ã
designator C?  (value not drawn)
Value: *
footprint Ê50-35-16XX-Ã_K5035-1R
footprint Ê50-35-16XX-Ã_K5035-1R1
footprint Ê50-35-16XX-Ã_Primary
pins: 1, 2

## Ê50-35-10000ÌÊÔ-10Â-1631
designator C?  (value not drawn)
Value: *
footprint Ê50-35-1625_K5035-1R
footprint Ê50-35-1625_K5035-1R1
footprint Ê50-35-1625_Primary
pins: 1, 2

## Ê50-35-10000ÌÊÔ-10Â-1631-Ã
designator C?  (value not drawn)
Value: *
footprint Ê50-35-16XX-Ã_K5035-1R
footprint Ê50-35-16XX-Ã_K5035-1R1
footprint Ê50-35-16XX-Ã_Primary
pins: 1, 2

## Ê50-35-10000ÌÊÔ-10Â-1635
designator C?  (value not drawn)
Value: *
footprint Ê50-35-1625_K5035-1R
footprint Ê50-35-1625_K5035-1R1
footprint Ê50-35-1625_Primary
pins: 1, 2

## Ê50-35-10000ÌÊÔ-10Â-1635-Ã
designator C?  (value not drawn)
Value: *
footprint Ê50-35-16XX-Ã_K5035-1R
footprint Ê50-35-16XX-Ã_K5035-1R1
footprint Ê50-35-16XX-Ã_Primary
pins: 1, 2

## Ê50-35-10000ÌÊÔ-10Â-1836
designator C?  (value not drawn)
Value: *
footprint Ê50-35-1835_K5035-1R
footprint Ê50-35-1835_K5035-1R1
footprint Ê50-35-1835_Primary
pins: 1, 2

## Ê50-35-10000ÌÊÔ-10Â-1836-Ã
designator C?  (value not drawn)
Value: *
footprint Ê50-35-18XX-Ã_K5035-1R
footprint Ê50-35-18XX-Ã_K5035-1R1
footprint Ê50-35-18XX-Ã_Primary
pins: 1, 2

## Ê50-35-10000ÌÊÔ-16Â-1835
designator C?  (value not drawn)
Value: *
footprint Ê50-35-1835_K5035-1R
footprint Ê50-35-1835_K5035-1R1
footprint Ê50-35-1835_Primary
pins: 1, 2

## Ê50-35-10000ÌÊÔ-16Â-1835-Ã
designator C?  (value not drawn)
Value: *
footprint Ê50-35-18XX-Ã_K5035-1R
footprint Ê50-35-18XX-Ã_K5035-1R1
footprint Ê50-35-18XX-Ã_Primary
pins: 1, 2

## Ê50-35-10000ÌÊÔ-16Â-1836-Ã
designator C?  (value not drawn)
Value: *
footprint Ê50-35-16XX-Ã_K5035-1R
footprint Ê50-35-16XX-Ã_K5035-1R1
footprint Ê50-35-16XX-Ã_Primary
pins: 1, 2

## Ê50-35-10000ÌÊÔ-16Â-1841
designator C?  (value not drawn)
Value: *
footprint Ê50-35-1835_K5035-1R
footprint Ê50-35-1835_K5035-1R1
footprint Ê50-35-1835_Primary
pins: 1, 2

## Ê50-35-10000ÌÊÔ-16Â-1841-Ã
designator C?  (value not drawn)
Value: *
footprint Ê50-35-18XX-Ã_K5035-1R
footprint Ê50-35-18XX-Ã_K5035-1R1
footprint Ê50-35-18XX-Ã_Primary
pins: 1, 2

## Ê50-35-10000ÌÊÔ-25Â-2250
designator C?  (value not drawn)
Value: *
footprint Ê50-35-2240_K5035-1R
footprint Ê50-35-2240_K5035-1R1
footprint Ê50-35-2240_Primary
pins: 1, 2

## Ê50-35-10000ÌÊÔ-25Â-2250-Ã
designator C?  (value not drawn)
Value: *
footprint Ê50-35-22XX-Ã_K5035-1R
footprint Ê50-35-22XX-Ã_K5035-1R1
footprint Ê50-35-22XX-Ã_Primary
pins: 1, 2